# Altium integrated library Renesas Microcontroller H8S.IntLib: 670 symbols (part 23 of 70)
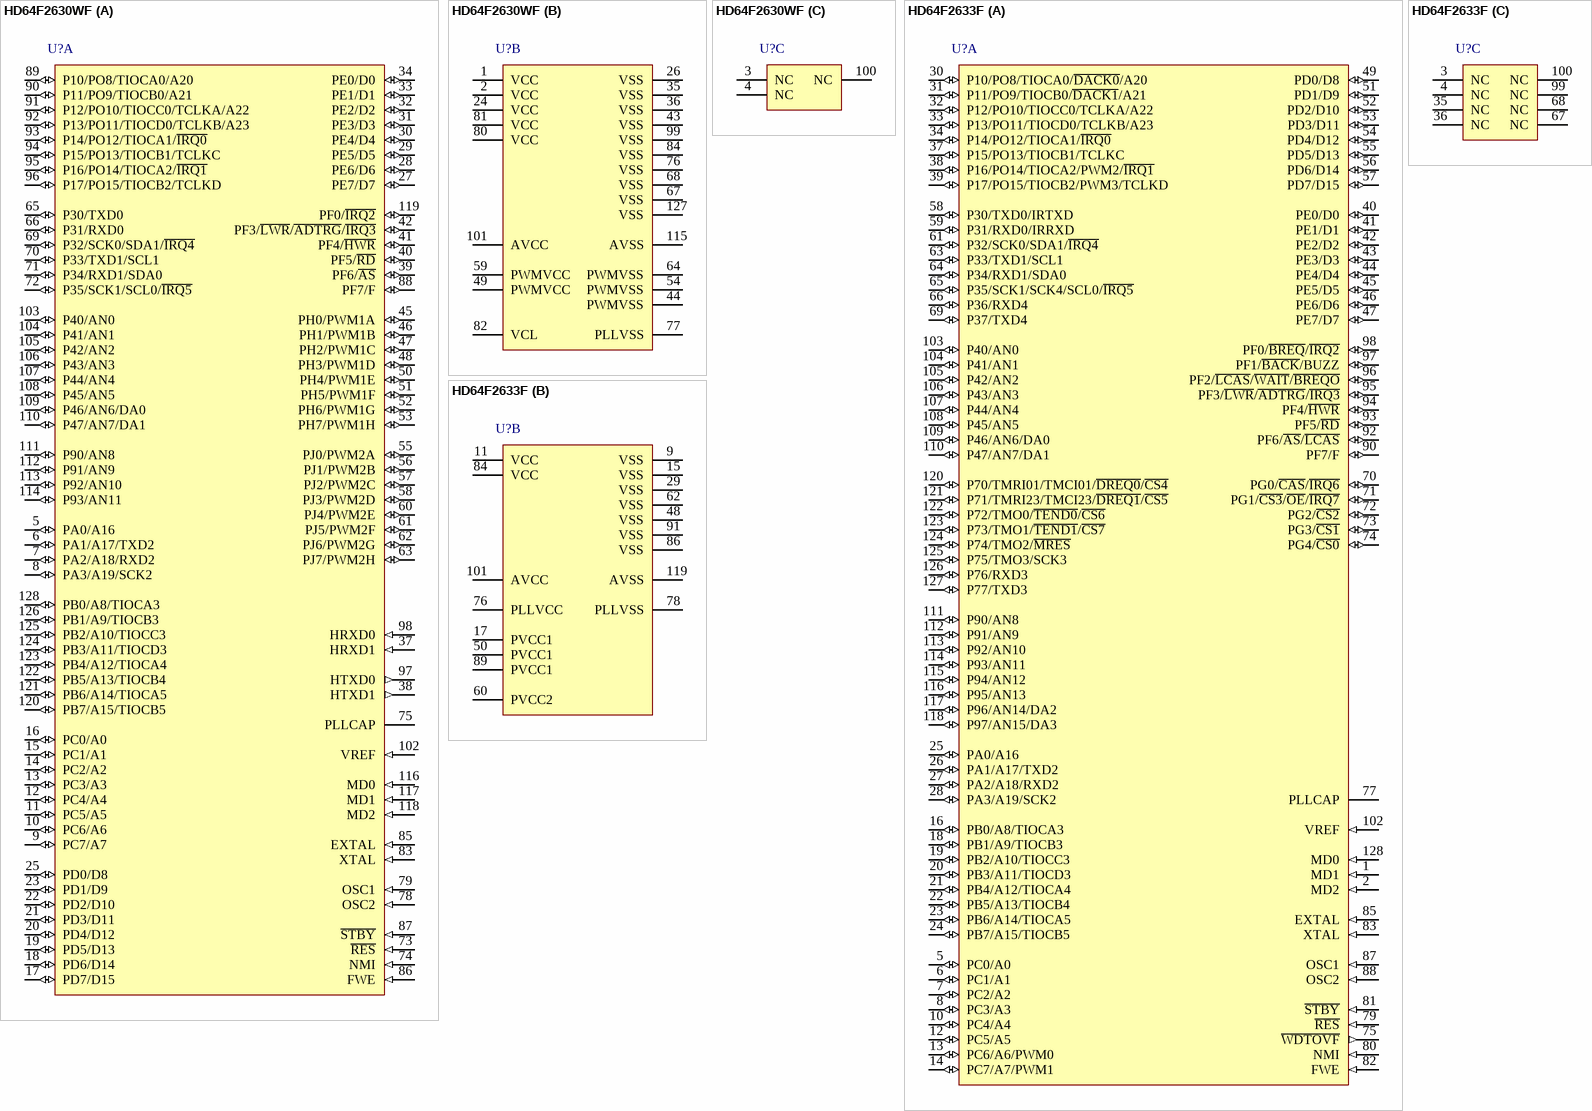
[diagram p256: symbols HD64F2630WF to HD64F2633F]

## HD64F2633F
designator U?
Flash memory H8S/2600 Series, 2633 Group MCU, 256K ROM, 16K RAM, FP-128B Pkg; Published: 28-Aug-2009; DatasheetVersion: Rev.5.00, Mar-2005; PackageVersion: Sep-2005; PackageReference: PRQP0128KB-A; Publisher: Altium Limited; PackageDescription: 128-Pin Plastic Quad Flat Pack, 20 x 14 x 2.7 mm Body, 0.5 mm Pitch; Code_JEITA: P-QFP128-14x20-0.50; Code_IPC: SQFP50P1600X2200-128; ComponentLink1Description: Manufacturer Link; ComponentLink1URL: http://sg.renesas.com/fmwk.jsp?cnt=h8s_family_landing.jsp&fp=/products/mpumcu/h8s_family/; ComponentLink2Description: Datasheet; ComponentLink2URL: http://documentation.renesas.com/eng/products/mpumcu/rej09b0234_h8s2633.pdf; ComponentLink3Description: Packaging Specification; ComponentLink3URL: http://sg.renesas.com/media/products/common_info/package/pdf/ic/code/prqp0128kb_a.pdf
footprint PRQP0128KB-A_N (Shrink QFP, 128-Leads, Body 20x14 mm, Pitch 0.5mm, IPC Medium Density)
footprint PRQP0128KB-A_L (Shrink QFP, 128-Leads, Body 20x14 mm, Pitch 0.5mm, IPC High Density)
footprint PRQP0128KB-A_M (Shrink QFP, 128-Leads, Body 20x14 mm, Pitch 0.5mm, IPC Low Density)
part A pins: 1 MD1 (in), 2 MD2 (in), 5 PC0/A0 (io), 6 PC1/A1 (io), 7 PC2/A2 (io), 8 PC3/A3 (io), 10 PC4/A4 (io), 12 PC5/A5 (io), 13 PC6/A6/PWM0 (io), 14 PC7/A7/PWM1 (io), 16 PB0/A8/TIOCA3 (io), 18 PB1/A9/TIOCB3 (io), 19 PB2/A10/TIOCC3 (io), 20 PB3/A11/TIOCD3 (io), 21 PB4/A12/TIOCA4 (io), 22 PB5/A13/TIOCB4 (io), 23 PB6/A14/TIOCA5 (io), 24 PB7/A15/TIOCB5 (io), 25 PA0/A16 (io), 26 PA1/A17/TXD2 (io), 27 PA2/A18/RXD2 (io), 28 PA3/A19/SCK2 (io), 30 P10/PO8/TIOCA0/~{DACK0}/A20 (io), 31 P11/PO9/TIOCB0/~{DACK1}/A21 (io), 32 P12/PO10/TIOCC0/TCLKA/A22 (io), 33 P13/PO11/TIOCD0/TCLKB/A23 (io), 34 P14/PO12/TIOCA1/~{IRQ0} (io), 37 P15/PO13/TIOCB1/TCLKC (io), 38 P16/PO14/TIOCA2/PWM2/~{IRQ1} (io), 39 P17/PO15/TIOCB2/PWM3/TCLKD (io), 40 PE0/D0 (io), 41 PE1/D1 (io), 42 PE2/D2 (io), 43 PE3/D3 (io), 44 PE4/D4 (io), 45 PE5/D5 (io), 46 PE6/D6 (io), 47 PE7/D7 (io), 49 PD0/D8 (io), 51 PD1/D9 (io), 52 PD2/D10 (io), 53 PD3/D11 (io), 54 PD4/D12 (io), 55 PD5/D13 (io), 56 PD6/D14 (io), 57 PD7/D15 (io), 58 P30/TXD0/IRTXD (io), 59 P31/RXD0/IRRXD (io), 61 P32/SCK0/SDA1/~{IRQ4} (io), 63 P33/TXD1/SCL1 (io), 64 P34/RXD1/SDA0 (io), 65 P35/SCK1/SCK4/SCL0/~{IRQ5} (io), 66 P36/RXD4 (io), 69 P37/TXD4 (io), 70 PG0/~{CAS}/~{IRQ6} (io), 71 PG1/~{CS3}/~{OE}/~{IRQ7} (io), 72 PG2/~{CS2} (io), 73 PG3/~{CS1} (io), 74 PG4/~{CS0} (io), 75 ~{WDTOVF} (out), 77 PLLCAP, 79 ~{RES} (in), 80 NMI (in), 81 ~{STBY} (in), 82 FWE (in), 83 XTAL (in), 85 EXTAL (in), 87 OSC1 (in), 88 OSC2 (in), 90 PF7/F (io), 92 PF6/~{AS}/~{LCAS} (io), 93 PF5/~{RD} (io), 94 PF4/~{HWR} (io), 95 PF3/~{LWR}/~{ADTRG}/~{IRQ3} (io), 96 PF2/~{LCAS}/~{WAIT}/~{BREQO} (io), 97 PF1/~{BACK}/BUZZ (io), 98 PF0/~{BREQ}/~{IRQ2} (io), 102 VREF (in), 103 P40/AN0 (io), 104 P41/AN1 (io), 105 P42/AN2 (io), 106 P43/AN3 (io), 107 P44/AN4 (io), 108 P45/AN5 (io), 109 P46/AN6/DA0 (io), 110 P47/AN7/DA1 (io), 111 P90/AN8 (io), 112 P91/AN9 (io), 113 P92/AN10 (io), 114 P93/AN11 (io), 115 P94/AN12 (io), 116 P95/AN13 (io), 117 P96/AN14/DA2 (io), 118 P97/AN15/DA3 (io), 120 P70/TMRI01/TMCI01/~{DREQ0}/~{CS4} (io), 121 P71/TMRI23/TMCI23/~{DREQ1}/~{CS5} (io), 122 P72/TMO0/~{TEND0}/~{CS6} (io), 123 P73/TMO1/~{TEND1}/~{CS7} (io), 124 P74/TMO2/~{MRES} (io), 125 P75/TMO3/SCK3 (io), 126 P76/RXD3 (io), 127 P77/TXD3 (io), 128 MD0 (in)
part B pins: 9 VSS (power), 11 VCC (power), 15 VSS (power), 17 PVCC1 (power), 29 VSS (power), 48 VSS (power), 50 PVCC1 (power), 60 PVCC2 (power), 62 VSS (power), 76 PLLVCC (power), 78 PLLVSS (power), 84 VCC (power), 86 VSS (power), 89 PVCC1 (power), 91 VSS (power), 101 AVCC (power), 119 AVSS (power)
part C pins: 3 NC, 4 NC, 35 NC, 36 NC, 67 NC, 68 NC, 99 NC, 100 NC

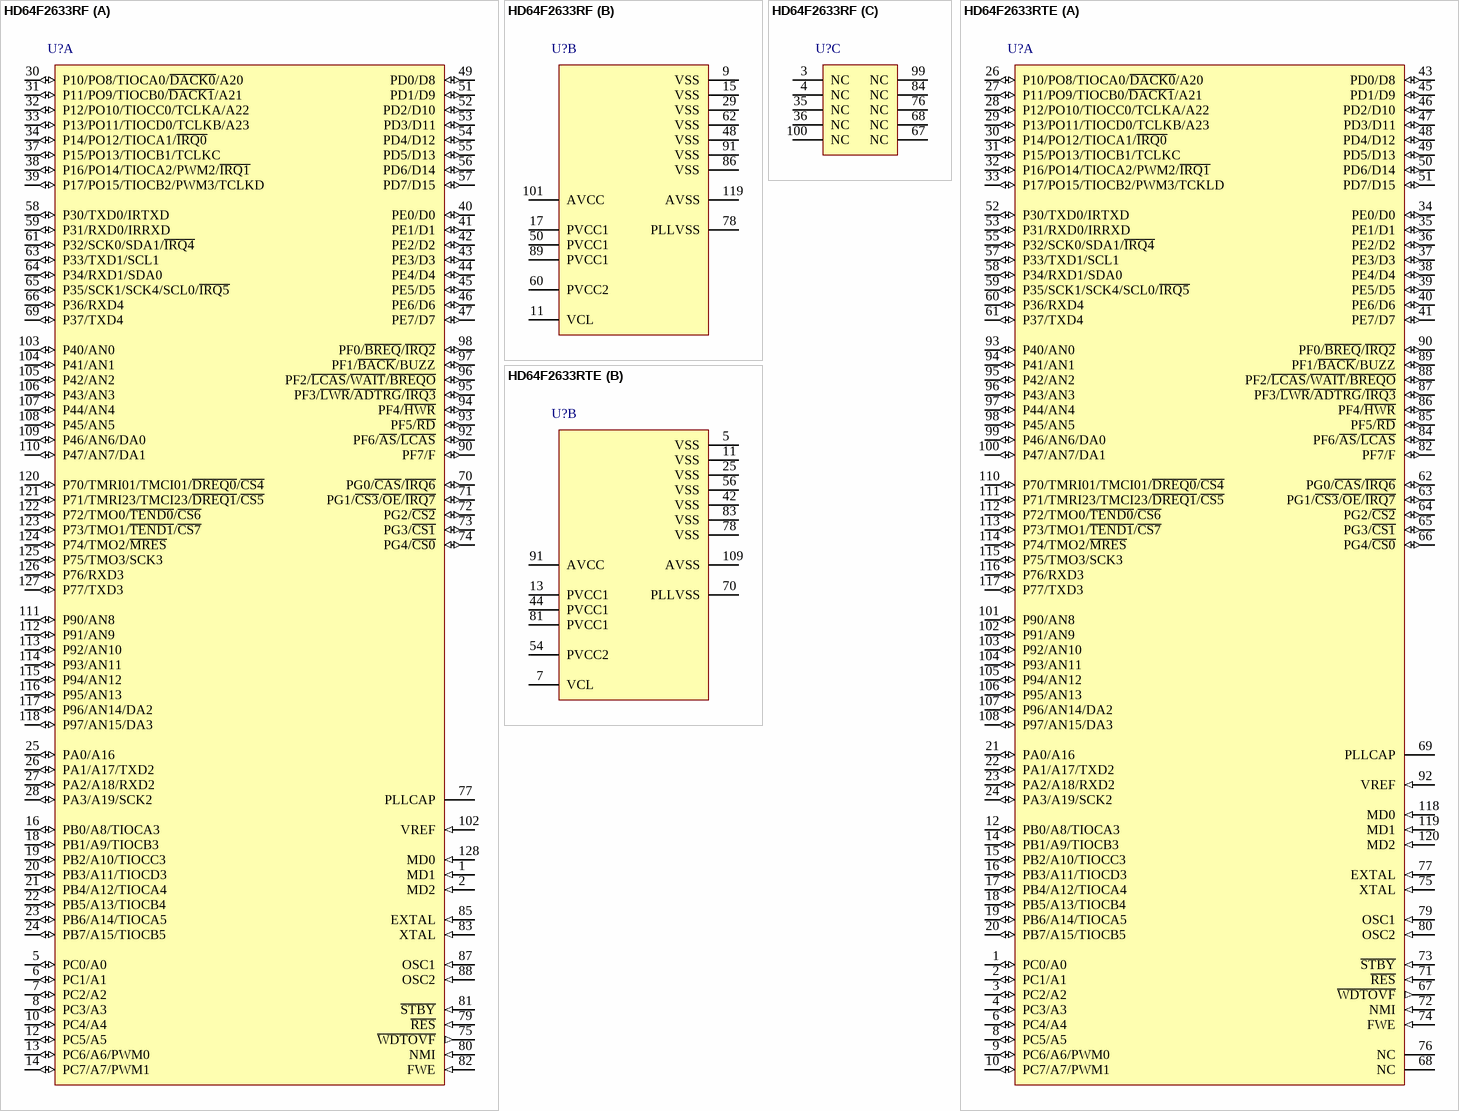
[diagram p79: symbols HD64F2633RF to HD64F2633RTE]

## HD64F2633RF
designator U?
Flash memory H8S/2600 Series, 2633 Group MCU, 256K ROM, 16K RAM, FP-128B Pkg; Published: 28-Aug-2009; DatasheetVersion: Rev.5.00, Mar-2005; PackageVersion: Sep-2005; PackageReference: PRQP0128KB-A; Publisher: Altium Limited; PackageDescription: 128-Pin Plastic Quad Flat Pack, 20 x 14 x 2.7 mm Body, 0.5 mm Pitch; Code_JEITA: P-QFP128-14x20-0.50; Code_IPC: SQFP50P1600X2200-128; ComponentLink1Description: Manufacturer Link; ComponentLink1URL: http://sg.renesas.com/fmwk.jsp?cnt=h8s_family_landing.jsp&fp=/products/mpumcu/h8s_family/; ComponentLink2Description: Datasheet; ComponentLink2URL: http://documentation.renesas.com/eng/products/mpumcu/rej09b0234_h8s2633.pdf; ComponentLink3Description: Packaging Specification; ComponentLink3URL: http://sg.renesas.com/media/products/common_info/package/pdf/ic/code/prqp0128kb_a.pdf
footprint PRQP0128KB-A_N (Shrink QFP, 128-Leads, Body 20x14 mm, Pitch 0.5mm, IPC Medium Density)
footprint PRQP0128KB-A_L (Shrink QFP, 128-Leads, Body 20x14 mm, Pitch 0.5mm, IPC High Density)
footprint PRQP0128KB-A_M (Shrink QFP, 128-Leads, Body 20x14 mm, Pitch 0.5mm, IPC Low Density)
part A pins: 1 MD1 (in), 2 MD2 (in), 5 PC0/A0 (io), 6 PC1/A1 (io), 7 PC2/A2 (io), 8 PC3/A3 (io), 10 PC4/A4 (io), 12 PC5/A5 (io), 13 PC6/A6/PWM0 (io), 14 PC7/A7/PWM1 (io), 16 PB0/A8/TIOCA3 (io), 18 PB1/A9/TIOCB3 (io), 19 PB2/A10/TIOCC3 (io), 20 PB3/A11/TIOCD3 (io), 21 PB4/A12/TIOCA4 (io), 22 PB5/A13/TIOCB4 (io), 23 PB6/A14/TIOCA5 (io), 24 PB7/A15/TIOCB5 (io), 25 PA0/A16 (io), 26 PA1/A17/TXD2 (io), 27 PA2/A18/RXD2 (io), 28 PA3/A19/SCK2 (io), 30 P10/PO8/TIOCA0/~{DACK0}/A20 (io), 31 P11/PO9/TIOCB0/~{DACK1}/A21 (io), 32 P12/PO10/TIOCC0/TCLKA/A22 (io), 33 P13/PO11/TIOCD0/TCLKB/A23 (io), 34 P14/PO12/TIOCA1/~{IRQ0} (io), 37 P15/PO13/TIOCB1/TCLKC (io), 38 P16/PO14/TIOCA2/PWM2/~{IRQ1} (io), 39 P17/PO15/TIOCB2/PWM3/TCLKD (io), 40 PE0/D0 (io), 41 PE1/D1 (io), 42 PE2/D2 (io), 43 PE3/D3 (io), 44 PE4/D4 (io), 45 PE5/D5 (io), 46 PE6/D6 (io), 47 PE7/D7 (io), 49 PD0/D8 (io), 51 PD1/D9 (io), 52 PD2/D10 (io), 53 PD3/D11 (io), 54 PD4/D12 (io), 55 PD5/D13 (io), 56 PD6/D14 (io), 57 PD7/D15 (io), 58 P30/TXD0/IRTXD (io), 59 P31/RXD0/IRRXD (io), 61 P32/SCK0/SDA1/~{IRQ4} (io), 63 P33/TXD1/SCL1 (io), 64 P34/RXD1/SDA0 (io), 65 P35/SCK1/SCK4/SCL0/~{IRQ5} (io), 66 P36/RXD4 (io), 69 P37/TXD4 (io), 70 PG0/~{CAS}/~{IRQ6} (io), 71 PG1/~{CS3}/~{OE}/~{IRQ7} (io), 72 PG2/~{CS2} (io), 73 PG3/~{CS1} (io), 74 PG4/~{CS0} (io), 75 ~{WDTOVF} (out), 77 PLLCAP, 79 ~{RES} (in), 80 NMI (in), 81 ~{STBY} (in), 82 FWE (in), 83 XTAL (in), 85 EXTAL (in), 87 OSC1 (in), 88 OSC2 (in), 90 PF7/F (io), 92 PF6/~{AS}/~{LCAS} (io), 93 PF5/~{RD} (io), 94 PF4/~{HWR} (io), 95 PF3/~{LWR}/~{ADTRG}/~{IRQ3} (io), 96 PF2/~{LCAS}/~{WAIT}/~{BREQO} (io), 97 PF1/~{BACK}/BUZZ (io), 98 PF0/~{BREQ}/~{IRQ2} (io), 102 VREF (in), 103 P40/AN0 (io), 104 P41/AN1 (io), 105 P42/AN2 (io), 106 P43/AN3 (io), 107 P44/AN4 (io), 108 P45/AN5 (io), 109 P46/AN6/DA0 (io), 110 P47/AN7/DA1 (io), 111 P90/AN8 (io), 112 P91/AN9 (io), 113 P92/AN10 (io), 114 P93/AN11 (io), 115 P94/AN12 (io), 116 P95/AN13 (io), 117 P96/AN14/DA2 (io), 118 P97/AN15/DA3 (io), 120 P70/TMRI01/TMCI01/~{DREQ0}/~{CS4} (io), 121 P71/TMRI23/TMCI23/~{DREQ1}/~{CS5} (io), 122 P72/TMO0/~{TEND0}/~{CS6} (io), 123 P73/TMO1/~{TEND1}/~{CS7} (io), 124 P74/TMO2/~{MRES} (io), 125 P75/TMO3/SCK3 (io), 126 P76/RXD3 (io), 127 P77/TXD3 (io), 128 MD0 (in)
part B pins: 9 VSS (power), 11 VCL, 15 VSS (power), 17 PVCC1 (power), 29 VSS (power), 48 VSS (power), 50 PVCC1 (power), 60 PVCC2 (power), 62 VSS (power), 78 PLLVSS (power), 86 VSS (power), 89 PVCC1 (power), 91 VSS (power), 101 AVCC (power), 119 AVSS (power)
part C pins: 3 NC, 4 NC, 35 NC, 36 NC, 67 NC, 68 NC, 76 NC, 84 NC, 99 NC, 100 NC

## HD64F2633RTE
designator U?
Flash memory H8S/2600 Series, 2633 Group MCU, 256K ROM, 16K RAM, TFP-120 Pkg; Published: 28-Aug-2009; DatasheetVersion: Rev.5.00, Mar-2005; PackageVersion: Sep-2005; PackageReference: PTQP0120LA-A; Publisher: Altium Limited; PackageDescription: 120-Pin Plastic Thin QFP, 14 x 14 x 1.0 mm Body, 0.4 mm Pitch; Code_JEITA: P-TQFP120-14x14-0.40; ComponentLink1Description: Manufacturer Link; ComponentLink1URL: http://sg.renesas.com/fmwk.jsp?cnt=h8s_family_landing.jsp&fp=/products/mpumcu/h8s_family/; ComponentLink2Description: Datasheet; ComponentLink2URL: http://documentation.renesas.com/eng/products/mpumcu/rej09b0234_h8s2633.pdf; ComponentLink3Description: Packaging Specification; ComponentLink3URL: http://sg.renesas.com/media/products/common_info/package/pdf/ic/code/ptqp0120la_a.pdf
footprint PTQP0120LA-A_N (Thin QFP, 120-Leads, Body 14x14mm, Pitch 0.4mm, IPC Medium Density)
footprint PTQP0120LA-A_L (Thin QFP, 120-Leads, Body 14x14mm, Pitch 0.4mm, IPC High Density)
footprint PTQP0120LA-A_M (Thin QFP, 120-Leads, Body 14x14mm, Pitch 0.4mm, IPC Low Density)
part A pins: 1 PC0/A0 (io), 2 PC1/A1 (io), 3 PC2/A2 (io), 4 PC3/A3 (io), 6 PC4/A4 (io), 8 PC5/A5 (io), 9 PC6/A6/PWM0 (io), 10 PC7/A7/PWM1 (io), 12 PB0/A8/TIOCA3 (io), 14 PB1/A9/TIOCB3 (io), 15 PB2/A10/TIOCC3 (io), 16 PB3/A11/TIOCD3 (io), 17 PB4/A12/TIOCA4 (io), 18 PB5/A13/TIOCB4 (io), 19 PB6/A14/TIOCA5 (io), 20 PB7/A15/TIOCB5 (io), 21 PA0/A16 (io), 22 PA1/A17/TXD2 (io), 23 PA2/A18/RXD2 (io), 24 PA3/A19/SCK2 (io), 26 P10/PO8/TIOCA0/~{DACK0}/A20 (io), 27 P11/PO9/TIOCB0/~{DACK1}/A21 (io), 28 P12/PO10/TIOCC0/TCLKA/A22 (io), 29 P13/PO11/TIOCD0/TCLKB/A23 (io), 30 P14/PO12/TIOCA1/~{IRQ0} (io), 31 P15/PO13/TIOCB1/TCLKC (io), 32 P16/PO14/TIOCA2/PWM2/~{IRQ1} (io), 33 P17/PO15/TIOCB2/PWM3/TCKLD (io), 34 PE0/D0 (io), 35 PE1/D1 (io), 36 PE2/D2 (io), 37 PE3/D3 (io), 38 PE4/D4 (io), 39 PE5/D5 (io), 40 PE6/D6 (io), 41 PE7/D7 (io), 43 PD0/D8 (io), 45 PD1/D9 (io), 46 PD2/D10 (io), 47 PD3/D11 (io), 48 PD4/D12 (io), 49 PD5/D13 (io), 50 PD6/D14 (io), 51 PD7/D15 (io), 52 P30/TXD0/IRTXD (io), 53 P31/RXD0/IRRXD (io), 55 P32/SCK0/SDA1/~{IRQ4} (io), 57 P33/TXD1/SCL1 (io), 58 P34/RXD1/SDA0 (io), 59 P35/SCK1/SCK4/SCL0/~{IRQ5} (io), 60 P36/RXD4 (io), 61 P37/TXD4 (io), 62 PG0/~{CAS}/~{IRQ6} (io), 63 PG1/~{CS3}/~{OE}/~{IRQ7} (io), 64 PG2/~{CS2} (io), 65 PG3/~{CS1} (io), 66 PG4/~{CS0} (io), 67 ~{WDTOVF} (out), 68 NC, 69 PLLCAP, 71 ~{RES} (in), 72 NMI (in), 73 ~{STBY} (in), 74 FWE (in), 75 XTAL (in), 76 NC, 77 EXTAL (in), 79 OSC1 (in), 80 OSC2 (in), 82 PF7/F (io), 84 PF6/~{AS}/~{LCAS} (io), 85 PF5/~{RD} (io), 86 PF4/~{HWR} (io), 87 PF3/~{LWR}/~{ADTRG}/~{IRQ3} (io), 88 PF2/~{LCAS}/~{WAIT}/~{BREQO} (io), 89 PF1/~{BACK}/BUZZ (io), 90 PF0/~{BREQ}/~{IRQ2} (io), 92 VREF (in), 93 P40/AN0 (io), 94 P41/AN1 (io), 95 P42/AN2 (io), 96 P43/AN3 (io), 97 P44/AN4 (io), 98 P45/AN5 (io), 99 P46/AN6/DA0 (io), 100 P47/AN7/DA1 (io), 101 P90/AN8 (io), 102 P91/AN9 (io), 103 P92/AN10 (io), 104 P93/AN11 (io), 105 P94/AN12 (io), 106 P95/AN13 (io), 107 P96/AN14/DA2 (io), 108 P97/AN15/DA3 (io), 110 P70/TMRI01/TMCI01/~{DREQ0}/~{CS4} (io), 111 P71/TMRI23/TMCI23/~{DREQ1}/~{CS5} (io), 112 P72/TMO0/~{TEND0}/~{CS6} (io), 113 P73/TMO1/~{TEND1}/~{CS7} (io), 114 P74/TMO2/~{MRES} (io), 115 P75/TMO3/SCK3 (io), 116 P76/RXD3 (io), 117 P77/TXD3 (io), 118 MD0 (in), 119 MD1 (in), 120 MD2 (in)
part B pins: 5 VSS (power), 7 VCL, 11 VSS (power), 13 PVCC1 (power), 25 VSS (power), 42 VSS (power), 44 PVCC1 (power), 54 PVCC2 (power), 56 VSS (power), 70 PLLVSS (power), 78 VSS (power), 81 PVCC1 (power), 83 VSS (power), 91 AVCC (power), 109 AVSS (power)

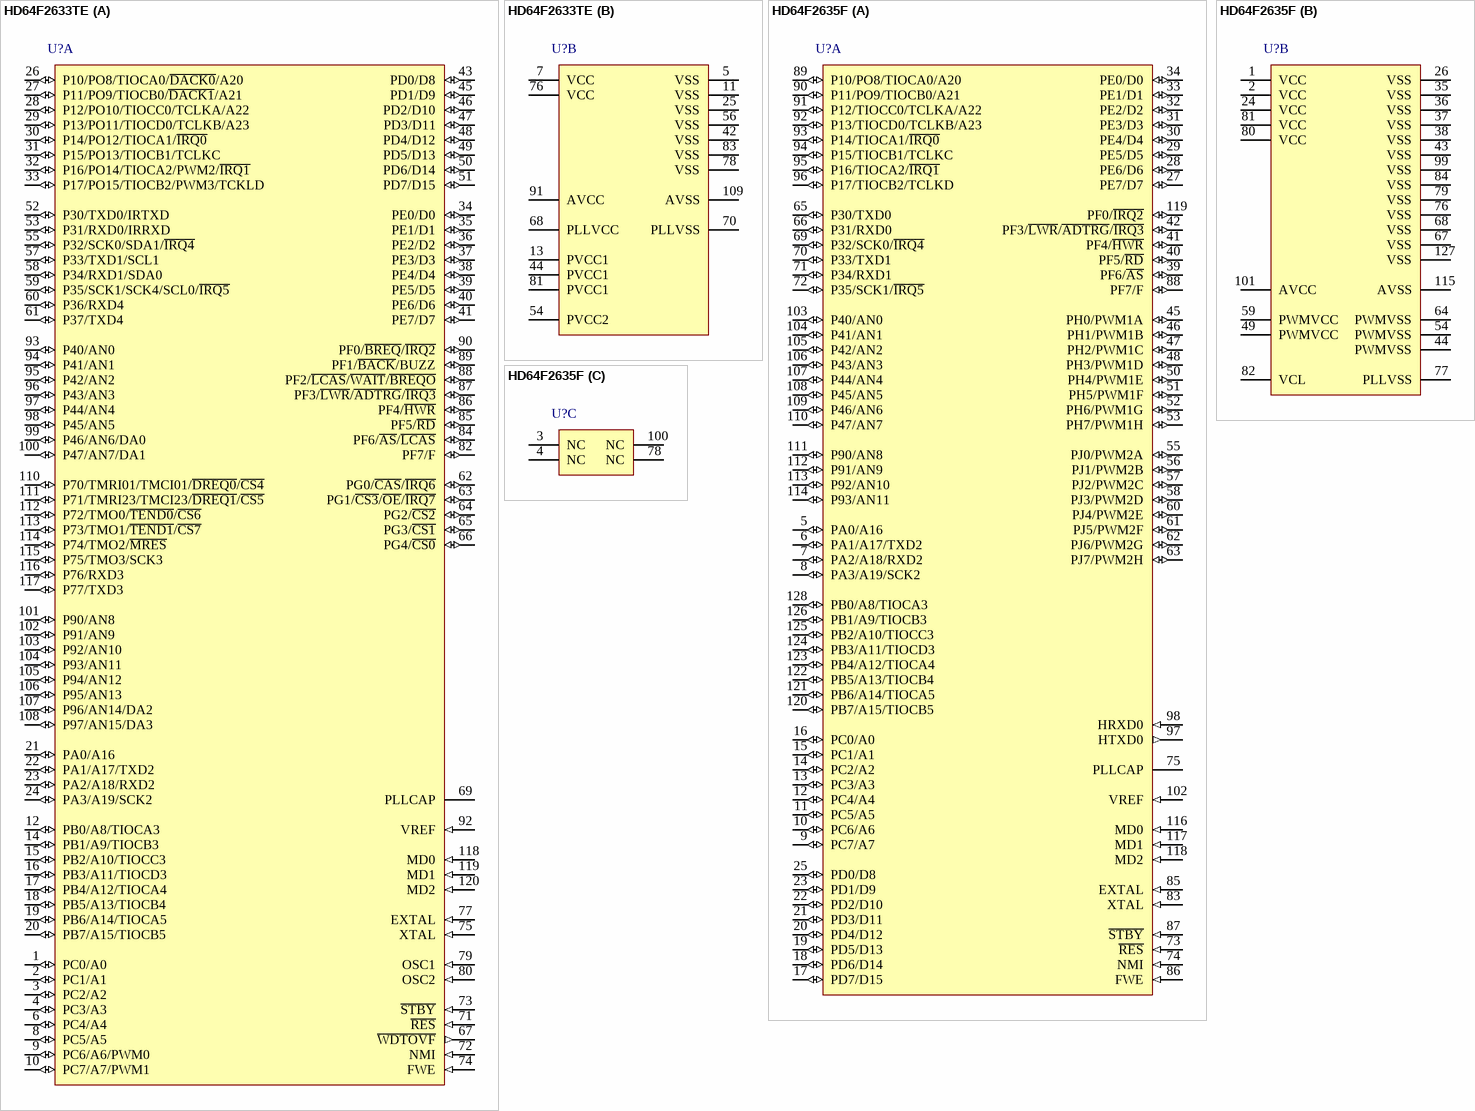
[diagram p80: symbols HD64F2633TE to HD64F2635F]

## HD64F2633TE
designator U?
Flash memory H8S/2600 Series, 2633 Group MCU, 256K ROM, 16K RAM, TFP-120 Pkg; Published: 28-Aug-2009; DatasheetVersion: Rev.5.00, Mar-2005; PackageVersion: Sep-2005; PackageReference: PTQP0120LA-A; Publisher: Altium Limited; PackageDescription: 120-Pin Plastic Thin QFP, 14 x 14 x 1.0 mm Body, 0.4 mm Pitch; Code_JEITA: P-TQFP120-14x14-0.40; ComponentLink1Description: Manufacturer Link; ComponentLink1URL: http://sg.renesas.com/fmwk.jsp?cnt=h8s_family_landing.jsp&fp=/products/mpumcu/h8s_family/; ComponentLink2Description: Datasheet; ComponentLink2URL: http://documentation.renesas.com/eng/products/mpumcu/rej09b0234_h8s2633.pdf; ComponentLink3Description: Packaging Specification; ComponentLink3URL: http://sg.renesas.com/media/products/common_info/package/pdf/ic/code/ptqp0120la_a.pdf
footprint PTQP0120LA-A_N (Thin QFP, 120-Leads, Body 14x14mm, Pitch 0.4mm, IPC Medium Density)
footprint PTQP0120LA-A_L (Thin QFP, 120-Leads, Body 14x14mm, Pitch 0.4mm, IPC High Density)
footprint PTQP0120LA-A_M (Thin QFP, 120-Leads, Body 14x14mm, Pitch 0.4mm, IPC Low Density)
part A pins: 1 PC0/A0 (io), 2 PC1/A1 (io), 3 PC2/A2 (io), 4 PC3/A3 (io), 6 PC4/A4 (io), 8 PC5/A5 (io), 9 PC6/A6/PWM0 (io), 10 PC7/A7/PWM1 (io), 12 PB0/A8/TIOCA3 (io), 14 PB1/A9/TIOCB3 (io), 15 PB2/A10/TIOCC3 (io), 16 PB3/A11/TIOCD3 (io), 17 PB4/A12/TIOCA4 (io), 18 PB5/A13/TIOCB4 (io), 19 PB6/A14/TIOCA5 (io), 20 PB7/A15/TIOCB5 (io), 21 PA0/A16 (io), 22 PA1/A17/TXD2 (io), 23 PA2/A18/RXD2 (io), 24 PA3/A19/SCK2 (io), 26 P10/PO8/TIOCA0/~{DACK0}/A20 (io), 27 P11/PO9/TIOCB0/~{DACK1}/A21 (io), 28 P12/PO10/TIOCC0/TCLKA/A22 (io), 29 P13/PO11/TIOCD0/TCLKB/A23 (io), 30 P14/PO12/TIOCA1/~{IRQ0} (io), 31 P15/PO13/TIOCB1/TCLKC (io), 32 P16/PO14/TIOCA2/PWM2/~{IRQ1} (io), 33 P17/PO15/TIOCB2/PWM3/TCKLD (io), 34 PE0/D0 (io), 35 PE1/D1 (io), 36 PE2/D2 (io), 37 PE3/D3 (io), 38 PE4/D4 (io), 39 PE5/D5 (io), 40 PE6/D6 (io), 41 PE7/D7 (io), 43 PD0/D8 (io), 45 PD1/D9 (io), 46 PD2/D10 (io), 47 PD3/D11 (io), 48 PD4/D12 (io), 49 PD5/D13 (io), 50 PD6/D14 (io), 51 PD7/D15 (io), 52 P30/TXD0/IRTXD (io), 53 P31/RXD0/IRRXD (io), 55 P32/SCK0/SDA1/~{IRQ4} (io), 57 P33/TXD1/SCL1 (io), 58 P34/RXD1/SDA0 (io), 59 P35/SCK1/SCK4/SCL0/~{IRQ5} (io), 60 P36/RXD4 (io), 61 P37/TXD4 (io), 62 PG0/~{CAS}/~{IRQ6} (io), 63 PG1/~{CS3}/~{OE}/~{IRQ7} (io), 64 PG2/~{CS2} (io), 65 PG3/~{CS1} (io), 66 PG4/~{CS0} (io), 67 ~{WDTOVF} (out), 69 PLLCAP, 71 ~{RES} (in), 72 NMI (in), 73 ~{STBY} (in), 74 FWE (in), 75 XTAL (in), 77 EXTAL (in), 79 OSC1 (in), 80 OSC2 (in), 82 PF7/F (io), 84 PF6/~{AS}/~{LCAS} (io), 85 PF5/~{RD} (io), 86 PF4/~{HWR} (io), 87 PF3/~{LWR}/~{ADTRG}/~{IRQ3} (io), 88 PF2/~{LCAS}/~{WAIT}/~{BREQO} (io), 89 PF1/~{BACK}/BUZZ (io), 90 PF0/~{BREQ}/~{IRQ2} (io), 92 VREF (in), 93 P40/AN0 (io), 94 P41/AN1 (io), 95 P42/AN2 (io), 96 P43/AN3 (io), 97 P44/AN4 (io), 98 P45/AN5 (io), 99 P46/AN6/DA0 (io), 100 P47/AN7/DA1 (io), 101 P90/AN8 (io), 102 P91/AN9 (io), 103 P92/AN10 (io), 104 P93/AN11 (io), 105 P94/AN12 (io), 106 P95/AN13 (io), 107 P96/AN14/DA2 (io), 108 P97/AN15/DA3 (io), 110 P70/TMRI01/TMCI01/~{DREQ0}/~{CS4} (io), 111 P71/TMRI23/TMCI23/~{DREQ1}/~{CS5} (io), 112 P72/TMO0/~{TEND0}/~{CS6} (io), 113 P73/TMO1/~{TEND1}/~{CS7} (io), 114 P74/TMO2/~{MRES} (io), 115 P75/TMO3/SCK3 (io), 116 P76/RXD3 (io), 117 P77/TXD3 (io), 118 MD0 (in), 119 MD1 (in), 120 MD2 (in)
part B pins: 5 VSS (power), 7 VCC (power), 11 VSS (power), 13 PVCC1 (power), 25 VSS (power), 42 VSS (power), 44 PVCC1 (power), 54 PVCC2 (power), 56 VSS (power), 68 PLLVCC (power), 70 PLLVSS (power), 76 VCC (power), 78 VSS (power), 81 PVCC1 (power), 83 VSS (power), 91 AVCC (power), 109 AVSS (power)

## HD64F2635F
designator U?
Flash memory H8S/2600 Series, 2635 Group MCU, 192K ROM, 6K RAM, FP-128B Pkg; Published: 28-Aug-2009; DatasheetVersion: Rev.7.00, Feb-2009; PackageVersion: Sep-2005; PackageReference: PRQP0128KB-A; Publisher: Altium Limited; PackageDescription: 128-Pin Plastic Quad Flat Pack, 20 x 14 x 2.7 mm Body, 0.5 mm Pitch; Code_JEITA: P-QFP128-14x20-0.50; Code_IPC: SQFP50P1600X2200-128; ComponentLink1Description: Manufacturer Link; ComponentLink1URL: http://sg.renesas.com/fmwk.jsp?cnt=h8s_family_landing.jsp&fp=/products/mpumcu/h8s_family/; ComponentLink2Description: Datasheet; ComponentLink2URL: http://documentation.renesas.com/eng/products/mpumcu/rej09b0103_h8s2639.pdf; ComponentLink3Description: Packaging Specification; ComponentLink3URL: http://sg.renesas.com/media/products/common_info/package/pdf/ic/code/prqp0128kb_a.pdf
footprint PRQP0128KB-A_N (Shrink QFP, 128-Leads, Body 20x14 mm, Pitch 0.5mm, IPC Medium Density)
footprint PRQP0128KB-A_L (Shrink QFP, 128-Leads, Body 20x14 mm, Pitch 0.5mm, IPC High Density)
footprint PRQP0128KB-A_M (Shrink QFP, 128-Leads, Body 20x14 mm, Pitch 0.5mm, IPC Low Density)
part A pins: 5 PA0/A16 (io), 6 PA1/A17/TXD2 (io), 7 PA2/A18/RXD2 (io), 8 PA3/A19/SCK2 (io), 9 PC7/A7 (io), 10 PC6/A6 (io), 11 PC5/A5 (io), 12 PC4/A4 (io), 13 PC3/A3 (io), 14 PC2/A2 (io), 15 PC1/A1 (io), 16 PC0/A0 (io), 17 PD7/D15 (io), 18 PD6/D14 (io), 19 PD5/D13 (io), 20 PD4/D12 (io), 21 PD3/D11 (io), 22 PD2/D10 (io), 23 PD1/D9 (io), 25 PD0/D8 (io), 27 PE7/D7 (io), 28 PE6/D6 (io), 29 PE5/D5 (io), 30 PE4/D4 (io), 31 PE3/D3 (io), 32 PE2/D2 (io), 33 PE1/D1 (io), 34 PE0/D0 (io), 39 PF6/~{AS} (io), 40 PF5/~{RD} (io), 41 PF4/~{HWR} (io), 42 PF3/~{LWR}/~{ADTRG}/~{IRQ3} (io), 45 PH0/PWM1A (io), 46 PH1/PWM1B (io), 47 PH2/PWM1C (io), 48 PH3/PWM1D (io), 50 PH4/PWM1E (io), 51 PH5/PWM1F (io), 52 PH6/PWM1G (io), 53 PH7/PWM1H (io), 55 PJ0/PWM2A (io), 56 PJ1/PWM2B (io), 57 PJ2/PWM2C (io), 58 PJ3/PWM2D (io), 60 PJ4/PWM2E (io), 61 PJ5/PWM2F (io), 62 PJ6/PWM2G (io), 63 PJ7/PWM2H (io), 65 P30/TXD0 (io), 66 P31/RXD0 (io), 69 P32/SCK0/~{IRQ4} (io), 70 P33/TXD1 (io), 71 P34/RXD1 (io), 72 P35/SCK1/~{IRQ5} (io), 73 ~{RES} (in), 74 NMI (in), 75 PLLCAP, 83 XTAL (in), 85 EXTAL (in), 86 FWE (in), 87 ~{STBY} (in), 88 PF7/F (io), 89 P10/PO8/TIOCA0/A20 (io), 90 P11/PO9/TIOCB0/A21 (io), 91 P12/TIOCC0/TCLKA/A22 (io), 92 P13/TIOCD0/TCLKB/A23 (io), 93 P14/TIOCA1/~{IRQ0} (io), 94 P15/TIOCB1/TCLKC (io), 95 P16/TIOCA2/~{IRQ1} (io), 96 P17/TIOCB2/TCLKD (io), 97 HTXD0 (out), 98 HRXD0 (in), 102 VREF (in), 103 P40/AN0 (io), 104 P41/AN1 (io), 105 P42/AN2 (io), 106 P43/AN3 (io), 107 P44/AN4 (io), 108 P45/AN5 (io), 109 P46/AN6 (io), 110 P47/AN7 (io), 111 P90/AN8 (io), 112 P91/AN9 (io), 113 P92/AN10 (io), 114 P93/AN11 (io), 116 MD0 (in), 117 MD1 (in), 118 MD2 (in), 119 PF0/~{IRQ2} (io), 120 PB7/A15/TIOCB5 (io), 121 PB6/A14/TIOCA5 (io), 122 PB5/A13/TIOCB4 (io), 123 PB4/A12/TIOCA4 (io), 124 PB3/A11/TIOCD3 (io), 125 PB2/A10/TIOCC3 (io), 126 PB1/A9/TIOCB3 (io), 128 PB0/A8/TIOCA3 (io)
part B pins: 1 VCC (power), 2 VCC (power), 24 VCC (power), 26 VSS (power), 35 VSS (power), 36 VSS (power), 37 VSS (power), 38 VSS (power), 43 VSS (power), 44 PWMVSS (power), 49 PWMVCC (power), 54 PWMVSS (power), 59 PWMVCC (power), 64 PWMVSS (power), 67 VSS (power), 68 VSS (power), 76 VSS (power), 77 PLLVSS (power), 79 VSS (power), 80 VCC (power), 81 VCC (power), 82 VCL, 84 VSS (power), 99 VSS (power), 101 AVCC (power), 115 AVSS (power), 127 VSS (power)
part C pins: 3 NC, 4 NC, 78 NC, 100 NC

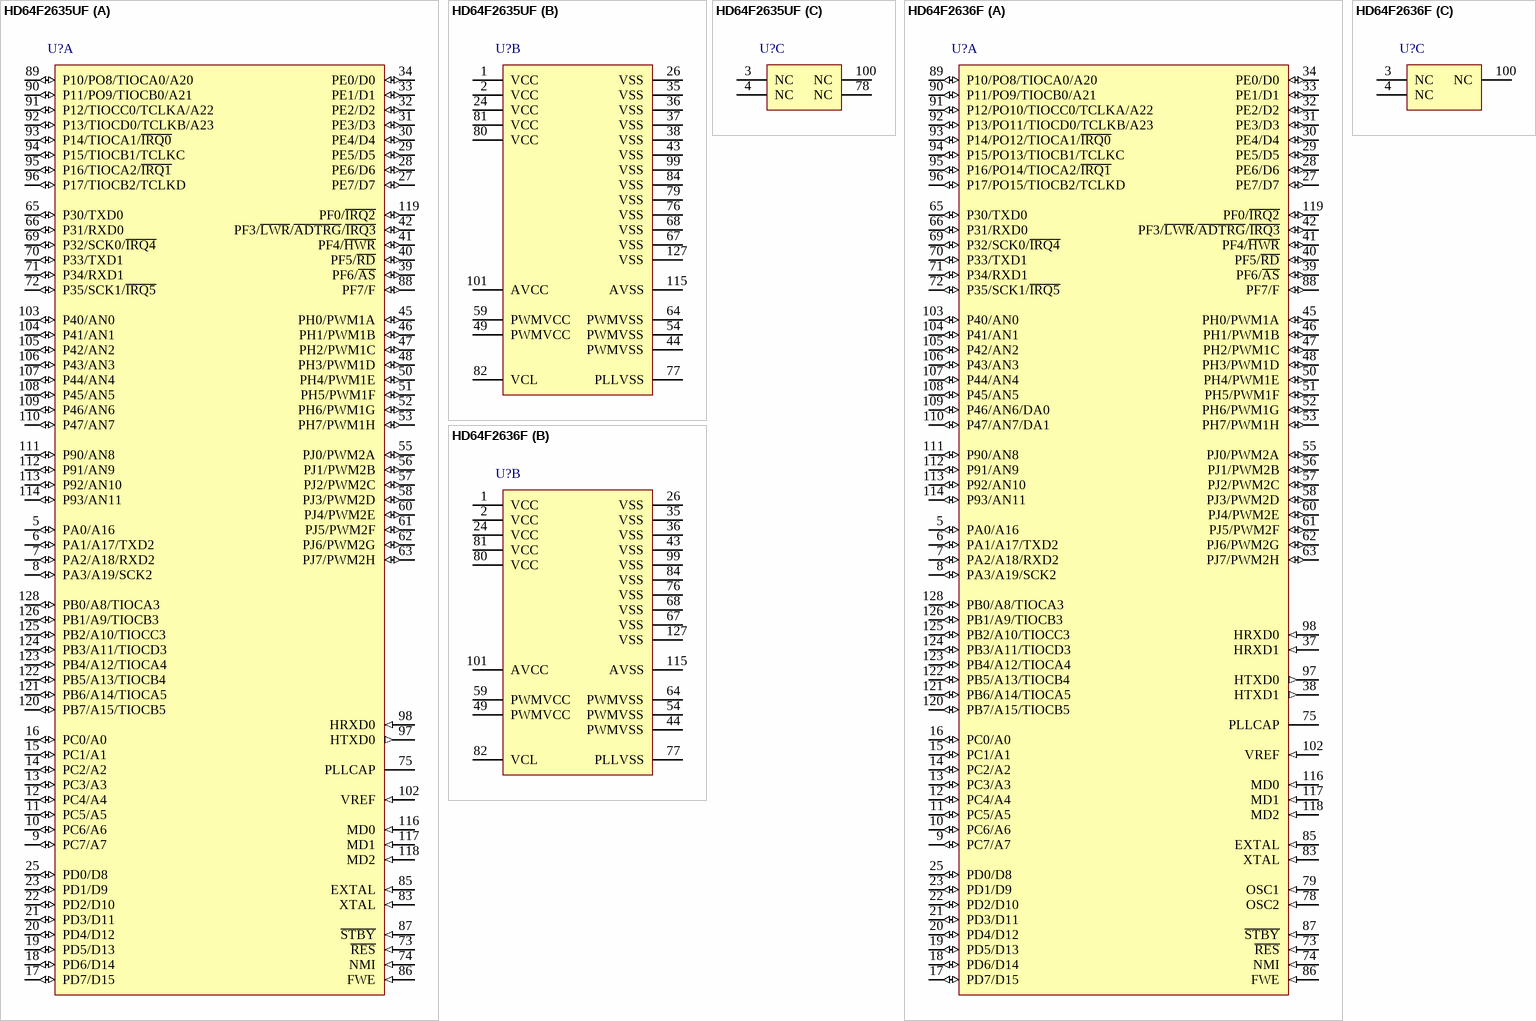
[diagram p81: symbols HD64F2635UF to HD64F2636F]

## HD64F2635UF
designator U?
Flash memory H8S/2600 Series, 2635 Group MCU, 192K ROM, 6K RAM, FP-128B Pkg; Published: 28-Aug-2009; DatasheetVersion: Rev.7.00, Feb-2009; PackageVersion: Sep-2005; PackageReference: PRQP0128KB-A; Publisher: Altium Limited; PackageDescription: 128-Pin Plastic Quad Flat Pack, 20 x 14 x 2.7 mm Body, 0.5 mm Pitch; Code_JEITA: P-QFP128-14x20-0.50; Code_IPC: SQFP50P1600X2200-128; ComponentLink1Description: Manufacturer Link; ComponentLink1URL: http://sg.renesas.com/fmwk.jsp?cnt=h8s_family_landing.jsp&fp=/products/mpumcu/h8s_family/; ComponentLink2Description: Datasheet; ComponentLink2URL: http://documentation.renesas.com/eng/products/mpumcu/rej09b0103_h8s2639.pdf; ComponentLink3Description: Packaging Specification; ComponentLink3URL: http://sg.renesas.com/media/products/common_info/package/pdf/ic/code/prqp0128kb_a.pdf
footprint PRQP0128KB-A_N (Shrink QFP, 128-Leads, Body 20x14 mm, Pitch 0.5mm, IPC Medium Density)
footprint PRQP0128KB-A_L (Shrink QFP, 128-Leads, Body 20x14 mm, Pitch 0.5mm, IPC High Density)
footprint PRQP0128KB-A_M (Shrink QFP, 128-Leads, Body 20x14 mm, Pitch 0.5mm, IPC Low Density)
part A pins: 5 PA0/A16 (io), 6 PA1/A17/TXD2 (io), 7 PA2/A18/RXD2 (io), 8 PA3/A19/SCK2 (io), 9 PC7/A7 (io), 10 PC6/A6 (io), 11 PC5/A5 (io), 12 PC4/A4 (io), 13 PC3/A3 (io), 14 PC2/A2 (io), 15 PC1/A1 (io), 16 PC0/A0 (io), 17 PD7/D15 (io), 18 PD6/D14 (io), 19 PD5/D13 (io), 20 PD4/D12 (io), 21 PD3/D11 (io), 22 PD2/D10 (io), 23 PD1/D9 (io), 25 PD0/D8 (io), 27 PE7/D7 (io), 28 PE6/D6 (io), 29 PE5/D5 (io), 30 PE4/D4 (io), 31 PE3/D3 (io), 32 PE2/D2 (io), 33 PE1/D1 (io), 34 PE0/D0 (io), 39 PF6/~{AS} (io), 40 PF5/~{RD} (io), 41 PF4/~{HWR} (io), 42 PF3/~{LWR}/~{ADTRG}/~{IRQ3} (io), 45 PH0/PWM1A (io), 46 PH1/PWM1B (io), 47 PH2/PWM1C (io), 48 PH3/PWM1D (io), 50 PH4/PWM1E (io), 51 PH5/PWM1F (io), 52 PH6/PWM1G (io), 53 PH7/PWM1H (io), 55 PJ0/PWM2A (io), 56 PJ1/PWM2B (io), 57 PJ2/PWM2C (io), 58 PJ3/PWM2D (io), 60 PJ4/PWM2E (io), 61 PJ5/PWM2F (io), 62 PJ6/PWM2G (io), 63 PJ7/PWM2H (io), 65 P30/TXD0 (io), 66 P31/RXD0 (io), 69 P32/SCK0/~{IRQ4} (io), 70 P33/TXD1 (io), 71 P34/RXD1 (io), 72 P35/SCK1/~{IRQ5} (io), 73 ~{RES} (in), 74 NMI (in), 75 PLLCAP, 83 XTAL (in), 85 EXTAL (in), 86 FWE (in), 87 ~{STBY} (in), 88 PF7/F (io), 89 P10/PO8/TIOCA0/A20 (io), 90 P11/PO9/TIOCB0/A21 (io), 91 P12/TIOCC0/TCLKA/A22 (io), 92 P13/TIOCD0/TCLKB/A23 (io), 93 P14/TIOCA1/~{IRQ0} (io), 94 P15/TIOCB1/TCLKC (io), 95 P16/TIOCA2/~{IRQ1} (io), 96 P17/TIOCB2/TCLKD (io), 97 HTXD0 (out), 98 HRXD0 (in), 102 VREF (in), 103 P40/AN0 (io), 104 P41/AN1 (io), 105 P42/AN2 (io), 106 P43/AN3 (io), 107 P44/AN4 (io), 108 P45/AN5 (io), 109 P46/AN6 (io), 110 P47/AN7 (io), 111 P90/AN8 (io), 112 P91/AN9 (io), 113 P92/AN10 (io), 114 P93/AN11 (io), 116 MD0 (in), 117 MD1 (in), 118 MD2 (in), 119 PF0/~{IRQ2} (io), 120 PB7/A15/TIOCB5 (io), 121 PB6/A14/TIOCA5 (io), 122 PB5/A13/TIOCB4 (io), 123 PB4/A12/TIOCA4 (io), 124 PB3/A11/TIOCD3 (io), 125 PB2/A10/TIOCC3 (io), 126 PB1/A9/TIOCB3 (io), 128 PB0/A8/TIOCA3 (io)
part B pins: 1 VCC (power), 2 VCC (power), 24 VCC (power), 26 VSS (power), 35 VSS (power), 36 VSS (power), 37 VSS (power), 38 VSS (power), 43 VSS (power), 44 PWMVSS (power), 49 PWMVCC (power), 54 PWMVSS (power), 59 PWMVCC (power), 64 PWMVSS (power), 67 VSS (power), 68 VSS (power), 76 VSS (power), 77 PLLVSS (power), 79 VSS (power), 80 VCC (power), 81 VCC (power), 82 VCL, 84 VSS (power), 99 VSS (power), 101 AVCC (power), 115 AVSS (power), 127 VSS (power)
part C pins: 3 NC, 4 NC, 78 NC, 100 NC

## HD64F2636F
designator U?
Flash memory H8S/2600 Series, 2636 Group MCU, 128K ROM, 4K RAM, FP-128B Pkg; Published: 28-Aug-2009; DatasheetVersion: Rev.7.00, Feb-2009; PackageVersion: Sep-2005; PackageReference: PRQP0128KB-A; Publisher: Altium Limited; PackageDescription: 128-Pin Plastic Quad Flat Pack, 20 x 14 x 2.7 mm Body, 0.5 mm Pitch; Code_JEITA: P-QFP128-14x20-0.50; Code_IPC: SQFP50P1600X2200-128; ComponentLink1Description: Manufacturer Link; ComponentLink1URL: http://sg.renesas.com/fmwk.jsp?cnt=h8s_family_landing.jsp&fp=/products/mpumcu/h8s_family/; ComponentLink2Description: Datasheet; ComponentLink2URL: http://documentation.renesas.com/eng/products/mpumcu/rej09b0103_h8s2639.pdf; ComponentLink3Description: Packaging Specification; ComponentLink3URL: http://sg.renesas.com/media/products/common_info/package/pdf/ic/code/prqp0128kb_a.pdf
footprint PRQP0128KB-A_N (Shrink QFP, 128-Leads, Body 20x14 mm, Pitch 0.5mm, IPC Medium Density)
footprint PRQP0128KB-A_L (Shrink QFP, 128-Leads, Body 20x14 mm, Pitch 0.5mm, IPC High Density)
footprint PRQP0128KB-A_M (Shrink QFP, 128-Leads, Body 20x14 mm, Pitch 0.5mm, IPC Low Density)
part A pins: 5 PA0/A16 (io), 6 PA1/A17/TXD2 (io), 7 PA2/A18/RXD2 (io), 8 PA3/A19/SCK2 (io), 9 PC7/A7 (io), 10 PC6/A6 (io), 11 PC5/A5 (io), 12 PC4/A4 (io), 13 PC3/A3 (io), 14 PC2/A2 (io), 15 PC1/A1 (io), 16 PC0/A0 (io), 17 PD7/D15 (io), 18 PD6/D14 (io), 19 PD5/D13 (io), 20 PD4/D12 (io), 21 PD3/D11 (io), 22 PD2/D10 (io), 23 PD1/D9 (io), 25 PD0/D8 (io), 27 PE7/D7 (io), 28 PE6/D6 (io), 29 PE5/D5 (io), 30 PE4/D4 (io), 31 PE3/D3 (io), 32 PE2/D2 (io), 33 PE1/D1 (io), 34 PE0/D0 (io), 37 HRXD1 (in), 38 HTXD1 (out), 39 PF6/~{AS} (io), 40 PF5/~{RD} (io), 41 PF4/~{HWR} (io), 42 PF3/~{LWR}/~{ADTRG}/~{IRQ3} (io), 45 PH0/PWM1A (io), 46 PH1/PWM1B (io), 47 PH2/PWM1C (io), 48 PH3/PWM1D (io), 50 PH4/PWM1E (io), 51 PH5/PWM1F (io), 52 PH6/PWM1G (io), 53 PH7/PWM1H (io), 55 PJ0/PWM2A (io), 56 PJ1/PWM2B (io), 57 PJ2/PWM2C (io), 58 PJ3/PWM2D (io), 60 PJ4/PWM2E (io), 61 PJ5/PWM2F (io), 62 PJ6/PWM2G (io), 63 PJ7/PWM2H (io), 65 P30/TXD0 (io), 66 P31/RXD0 (io), 69 P32/SCK0/~{IRQ4} (io), 70 P33/TXD1 (io), 71 P34/RXD1 (io), 72 P35/SCK1/~{IRQ5} (io), 73 ~{RES} (in), 74 NMI (in), 75 PLLCAP, 78 OSC2 (in), 79 OSC1 (in), 83 XTAL (in), 85 EXTAL (in), 86 FWE (in), 87 ~{STBY} (in), 88 PF7/F (io), 89 P10/PO8/TIOCA0/A20 (io), 90 P11/PO9/TIOCB0/A21 (io), 91 P12/PO10/TIOCC0/TCLKA/A22 (io), 92 P13/PO11/TIOCD0/TCLKB/A23 (io), 93 P14/PO12/TIOCA1/~{IRQ0} (io), 94 P15/PO13/TIOCB1/TCLKC (io), 95 P16/PO14/TIOCA2/~{IRQ1} (io), 96 P17/PO15/TIOCB2/TCLKD (io), 97 HTXD0 (out), 98 HRXD0 (in), 102 VREF (in), 103 P40/AN0 (io), 104 P41/AN1 (io), 105 P42/AN2 (io), 106 P43/AN3 (io), 107 P44/AN4 (io), 108 P45/AN5 (io), 109 P46/AN6/DA0 (io), 110 P47/AN7/DA1 (io), 111 P90/AN8 (io), 112 P91/AN9 (io), 113 P92/AN10 (io), 114 P93/AN11 (io), 116 MD0 (in), 117 MD1 (in), 118 MD2 (in), 119 PF0/~{IRQ2} (io), 120 PB7/A15/TIOCB5 (io), 121 PB6/A14/TIOCA5 (io), 122 PB5/A13/TIOCB4 (io), 123 PB4/A12/TIOCA4 (io), 124 PB3/A11/TIOCD3 (io), 125 PB2/A10/TIOCC3 (io), 126 PB1/A9/TIOCB3 (io), 128 PB0/A8/TIOCA3 (io)
part B pins: 1 VCC (power), 2 VCC (power), 24 VCC (power), 26 VSS (power), 35 VSS (power), 36 VSS (power), 43 VSS (power), 44 PWMVSS (power), 49 PWMVCC (power), 54 PWMVSS (power), 59 PWMVCC (power), 64 PWMVSS (power), 67 VSS (power), 68 VSS (power), 76 VSS (power), 77 PLLVSS (power), 80 VCC (power), 81 VCC (power), 82 VCL, 84 VSS (power), 99 VSS (power), 101 AVCC (power), 115 AVSS (power), 127 VSS (power)
part C pins: 3 NC, 4 NC, 100 NC

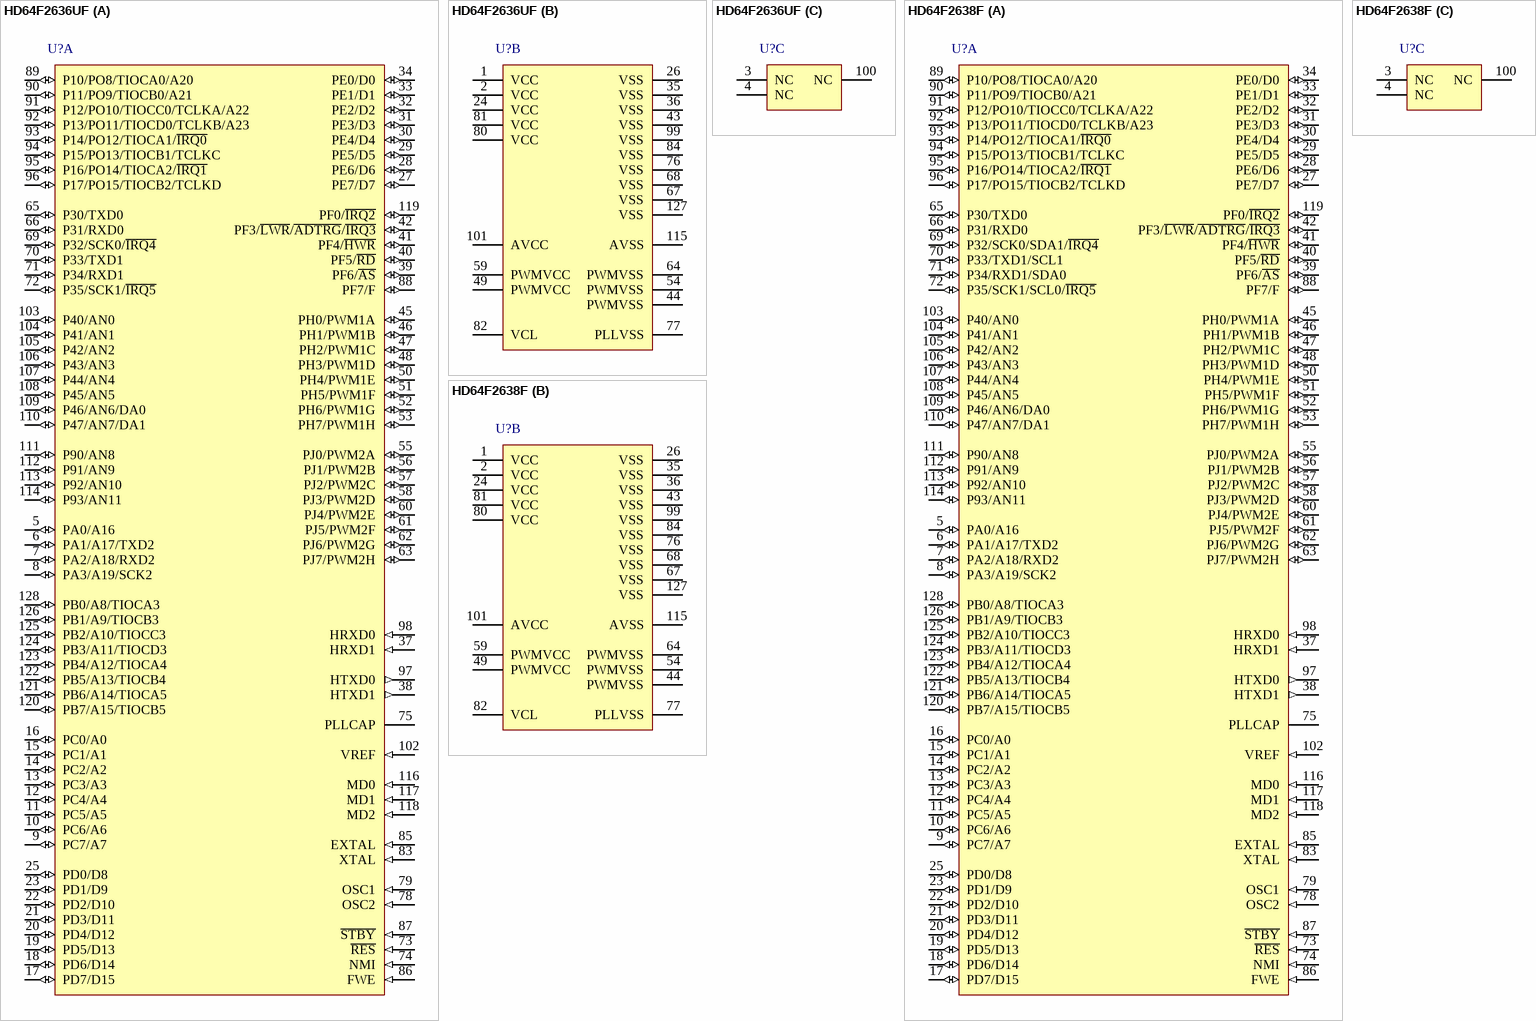
[diagram p82: symbols HD64F2636UF to HD64F2638F]

## HD64F2636UF
designator U?
Flash memory H8S/2600 Series, 2636 Group MCU, 128K ROM, 4K RAM, FP-128B Pkg; Published: 28-Aug-2009; DatasheetVersion: Rev.7.00, Feb-2009; PackageVersion: Sep-2005; PackageReference: PRQP0128KB-A; Publisher: Altium Limited; PackageDescription: 128-Pin Plastic Quad Flat Pack, 20 x 14 x 2.7 mm Body, 0.5 mm Pitch; Code_JEITA: P-QFP128-14x20-0.50; Code_IPC: SQFP50P1600X2200-128; ComponentLink1Description: Manufacturer Link; ComponentLink1URL: http://sg.renesas.com/fmwk.jsp?cnt=h8s_family_landing.jsp&fp=/products/mpumcu/h8s_family/; ComponentLink2Description: Datasheet; ComponentLink2URL: http://documentation.renesas.com/eng/products/mpumcu/rej09b0103_h8s2639.pdf; ComponentLink3Description: Packaging Specification; ComponentLink3URL: http://sg.renesas.com/media/products/common_info/package/pdf/ic/code/prqp0128kb_a.pdf
footprint PRQP0128KB-A_N (Shrink QFP, 128-Leads, Body 20x14 mm, Pitch 0.5mm, IPC Medium Density)
footprint PRQP0128KB-A_L (Shrink QFP, 128-Leads, Body 20x14 mm, Pitch 0.5mm, IPC High Density)
footprint PRQP0128KB-A_M (Shrink QFP, 128-Leads, Body 20x14 mm, Pitch 0.5mm, IPC Low Density)
part A pins: 5 PA0/A16 (io), 6 PA1/A17/TXD2 (io), 7 PA2/A18/RXD2 (io), 8 PA3/A19/SCK2 (io), 9 PC7/A7 (io), 10 PC6/A6 (io), 11 PC5/A5 (io), 12 PC4/A4 (io), 13 PC3/A3 (io), 14 PC2/A2 (io), 15 PC1/A1 (io), 16 PC0/A0 (io), 17 PD7/D15 (io), 18 PD6/D14 (io), 19 PD5/D13 (io), 20 PD4/D12 (io), 21 PD3/D11 (io), 22 PD2/D10 (io), 23 PD1/D9 (io), 25 PD0/D8 (io), 27 PE7/D7 (io), 28 PE6/D6 (io), 29 PE5/D5 (io), 30 PE4/D4 (io), 31 PE3/D3 (io), 32 PE2/D2 (io), 33 PE1/D1 (io), 34 PE0/D0 (io), 37 HRXD1 (in), 38 HTXD1 (out), 39 PF6/~{AS} (io), 40 PF5/~{RD} (io), 41 PF4/~{HWR} (io), 42 PF3/~{LWR}/~{ADTRG}/~{IRQ3} (io), 45 PH0/PWM1A (io), 46 PH1/PWM1B (io), 47 PH2/PWM1C (io), 48 PH3/PWM1D (io), 50 PH4/PWM1E (io), 51 PH5/PWM1F (io), 52 PH6/PWM1G (io), 53 PH7/PWM1H (io), 55 PJ0/PWM2A (io), 56 PJ1/PWM2B (io), 57 PJ2/PWM2C (io), 58 PJ3/PWM2D (io), 60 PJ4/PWM2E (io), 61 PJ5/PWM2F (io), 62 PJ6/PWM2G (io), 63 PJ7/PWM2H (io), 65 P30/TXD0 (io), 66 P31/RXD0 (io), 69 P32/SCK0/~{IRQ4} (io), 70 P33/TXD1 (io), 71 P34/RXD1 (io), 72 P35/SCK1/~{IRQ5} (io), 73 ~{RES} (in), 74 NMI (in), 75 PLLCAP, 78 OSC2 (in), 79 OSC1 (in), 83 XTAL (in), 85 EXTAL (in), 86 FWE (in), 87 ~{STBY} (in), 88 PF7/F (io), 89 P10/PO8/TIOCA0/A20 (io), 90 P11/PO9/TIOCB0/A21 (io), 91 P12/PO10/TIOCC0/TCLKA/A22 (io), 92 P13/PO11/TIOCD0/TCLKB/A23 (io), 93 P14/PO12/TIOCA1/~{IRQ0} (io), 94 P15/PO13/TIOCB1/TCLKC (io), 95 P16/PO14/TIOCA2/~{IRQ1} (io), 96 P17/PO15/TIOCB2/TCLKD (io), 97 HTXD0 (out), 98 HRXD0 (in), 102 VREF (in), 103 P40/AN0 (io), 104 P41/AN1 (io), 105 P42/AN2 (io), 106 P43/AN3 (io), 107 P44/AN4 (io), 108 P45/AN5 (io), 109 P46/AN6/DA0 (io), 110 P47/AN7/DA1 (io), 111 P90/AN8 (io), 112 P91/AN9 (io), 113 P92/AN10 (io), 114 P93/AN11 (io), 116 MD0 (in), 117 MD1 (in), 118 MD2 (in), 119 PF0/~{IRQ2} (io), 120 PB7/A15/TIOCB5 (io), 121 PB6/A14/TIOCA5 (io), 122 PB5/A13/TIOCB4 (io), 123 PB4/A12/TIOCA4 (io), 124 PB3/A11/TIOCD3 (io), 125 PB2/A10/TIOCC3 (io), 126 PB1/A9/TIOCB3 (io), 128 PB0/A8/TIOCA3 (io)
part B pins: 1 VCC (power), 2 VCC (power), 24 VCC (power), 26 VSS (power), 35 VSS (power), 36 VSS (power), 43 VSS (power), 44 PWMVSS (power), 49 PWMVCC (power), 54 PWMVSS (power), 59 PWMVCC (power), 64 PWMVSS (power), 67 VSS (power), 68 VSS (power), 76 VSS (power), 77 PLLVSS (power), 80 VCC (power), 81 VCC (power), 82 VCL, 84 VSS (power), 99 VSS (power), 101 AVCC (power), 115 AVSS (power), 127 VSS (power)
part C pins: 3 NC, 4 NC, 100 NC

## HD64F2638F
designator U?
Flash memory H8S/2600 Series, 2638 Group MCU, 256K ROM, 16K RAM, FP-128B Pkg; Published: 28-Aug-2009; DatasheetVersion: Rev.7.00, Feb-2009; PackageVersion: Sep-2005; PackageReference: PRQP0128KB-A; Publisher: Altium Limited; PackageDescription: 128-Pin Plastic Quad Flat Pack, 20 x 14 x 2.7 mm Body, 0.5 mm Pitch; Code_JEITA: P-QFP128-14x20-0.50; Code_IPC: SQFP50P1600X2200-128; ComponentLink1Description: Manufacturer Link; ComponentLink1URL: http://sg.renesas.com/fmwk.jsp?cnt=h8s_family_landing.jsp&fp=/products/mpumcu/h8s_family/; ComponentLink2Description: Datasheet; ComponentLink2URL: http://documentation.renesas.com/eng/products/mpumcu/rej09b0103_h8s2639.pdf; ComponentLink3Description: Packaging Specification; ComponentLink3URL: http://sg.renesas.com/media/products/common_info/package/pdf/ic/code/prqp0128kb_a.pdf
footprint PRQP0128KB-A_N (Shrink QFP, 128-Leads, Body 20x14 mm, Pitch 0.5mm, IPC Medium Density)
footprint PRQP0128KB-A_L (Shrink QFP, 128-Leads, Body 20x14 mm, Pitch 0.5mm, IPC High Density)
footprint PRQP0128KB-A_M (Shrink QFP, 128-Leads, Body 20x14 mm, Pitch 0.5mm, IPC Low Density)
part A pins: 5 PA0/A16 (io), 6 PA1/A17/TXD2 (io), 7 PA2/A18/RXD2 (io), 8 PA3/A19/SCK2 (io), 9 PC7/A7 (io), 10 PC6/A6 (io), 11 PC5/A5 (io), 12 PC4/A4 (io), 13 PC3/A3 (io), 14 PC2/A2 (io), 15 PC1/A1 (io), 16 PC0/A0 (io), 17 PD7/D15 (io), 18 PD6/D14 (io), 19 PD5/D13 (io), 20 PD4/D12 (io), 21 PD3/D11 (io), 22 PD2/D10 (io), 23 PD1/D9 (io), 25 PD0/D8 (io), 27 PE7/D7 (io), 28 PE6/D6 (io), 29 PE5/D5 (io), 30 PE4/D4 (io), 31 PE3/D3 (io), 32 PE2/D2 (io), 33 PE1/D1 (io), 34 PE0/D0 (io), 37 HRXD1 (in), 38 HTXD1 (out), 39 PF6/~{AS} (io), 40 PF5/~{RD} (io), 41 PF4/~{HWR} (io), 42 PF3/~{LWR}/~{ADTRG}/~{IRQ3} (io), 45 PH0/PWM1A (io), 46 PH1/PWM1B (io), 47 PH2/PWM1C (io), 48 PH3/PWM1D (io), 50 PH4/PWM1E (io), 51 PH5/PWM1F (io), 52 PH6/PWM1G (io), 53 PH7/PWM1H (io), 55 PJ0/PWM2A (io), 56 PJ1/PWM2B (io), 57 PJ2/PWM2C (io), 58 PJ3/PWM2D (io), 60 PJ4/PWM2E (io), 61 PJ5/PWM2F (io), 62 PJ6/PWM2G (io), 63 PJ7/PWM2H (io), 65 P30/TXD0 (io), 66 P31/RXD0 (io), 69 P32/SCK0/SDA1/~{IRQ4} (io), 70 P33/TXD1/SCL1 (io), 71 P34/RXD1/SDA0 (io), 72 P35/SCK1/SCL0/~{IRQ5} (io), 73 ~{RES} (in), 74 NMI (in), 75 PLLCAP, 78 OSC2 (in), 79 OSC1 (in), 83 XTAL (in), 85 EXTAL (in), 86 FWE (in), 87 ~{STBY} (in), 88 PF7/F (io), 89 P10/PO8/TIOCA0/A20 (io), 90 P11/PO9/TIOCB0/A21 (io), 91 P12/PO10/TIOCC0/TCLKA/A22 (io), 92 P13/PO11/TIOCD0/TCLKB/A23 (io), 93 P14/PO12/TIOCA1/~{IRQ0} (io), 94 P15/PO13/TIOCB1/TCLKC (io), 95 P16/PO14/TIOCA2/~{IRQ1} (io), 96 P17/PO15/TIOCB2/TCLKD (io), 97 HTXD0 (out), 98 HRXD0 (in), 102 VREF (in), 103 P40/AN0 (io), 104 P41/AN1 (io), 105 P42/AN2 (io), 106 P43/AN3 (io), 107 P44/AN4 (io), 108 P45/AN5 (io), 109 P46/AN6/DA0 (io), 110 P47/AN7/DA1 (io), 111 P90/AN8 (io), 112 P91/AN9 (io), 113 P92/AN10 (io), 114 P93/AN11 (io), 116 MD0 (in), 117 MD1 (in), 118 MD2 (in), 119 PF0/~{IRQ2} (io), 120 PB7/A15/TIOCB5 (io), 121 PB6/A14/TIOCA5 (io), 122 PB5/A13/TIOCB4 (io), 123 PB4/A12/TIOCA4 (io), 124 PB3/A11/TIOCD3 (io), 125 PB2/A10/TIOCC3 (io), 126 PB1/A9/TIOCB3 (io), 128 PB0/A8/TIOCA3 (io)
part B pins: 1 VCC (power), 2 VCC (power), 24 VCC (power), 26 VSS (power), 35 VSS (power), 36 VSS (power), 43 VSS (power), 44 PWMVSS (power), 49 PWMVCC (power), 54 PWMVSS (power), 59 PWMVCC (power), 64 PWMVSS (power), 67 VSS (power), 68 VSS (power), 76 VSS (power), 77 PLLVSS (power), 80 VCC (power), 81 VCC (power), 82 VCL, 84 VSS (power), 99 VSS (power), 101 AVCC (power), 115 AVSS (power), 127 VSS (power)
part C pins: 3 NC, 4 NC, 100 NC

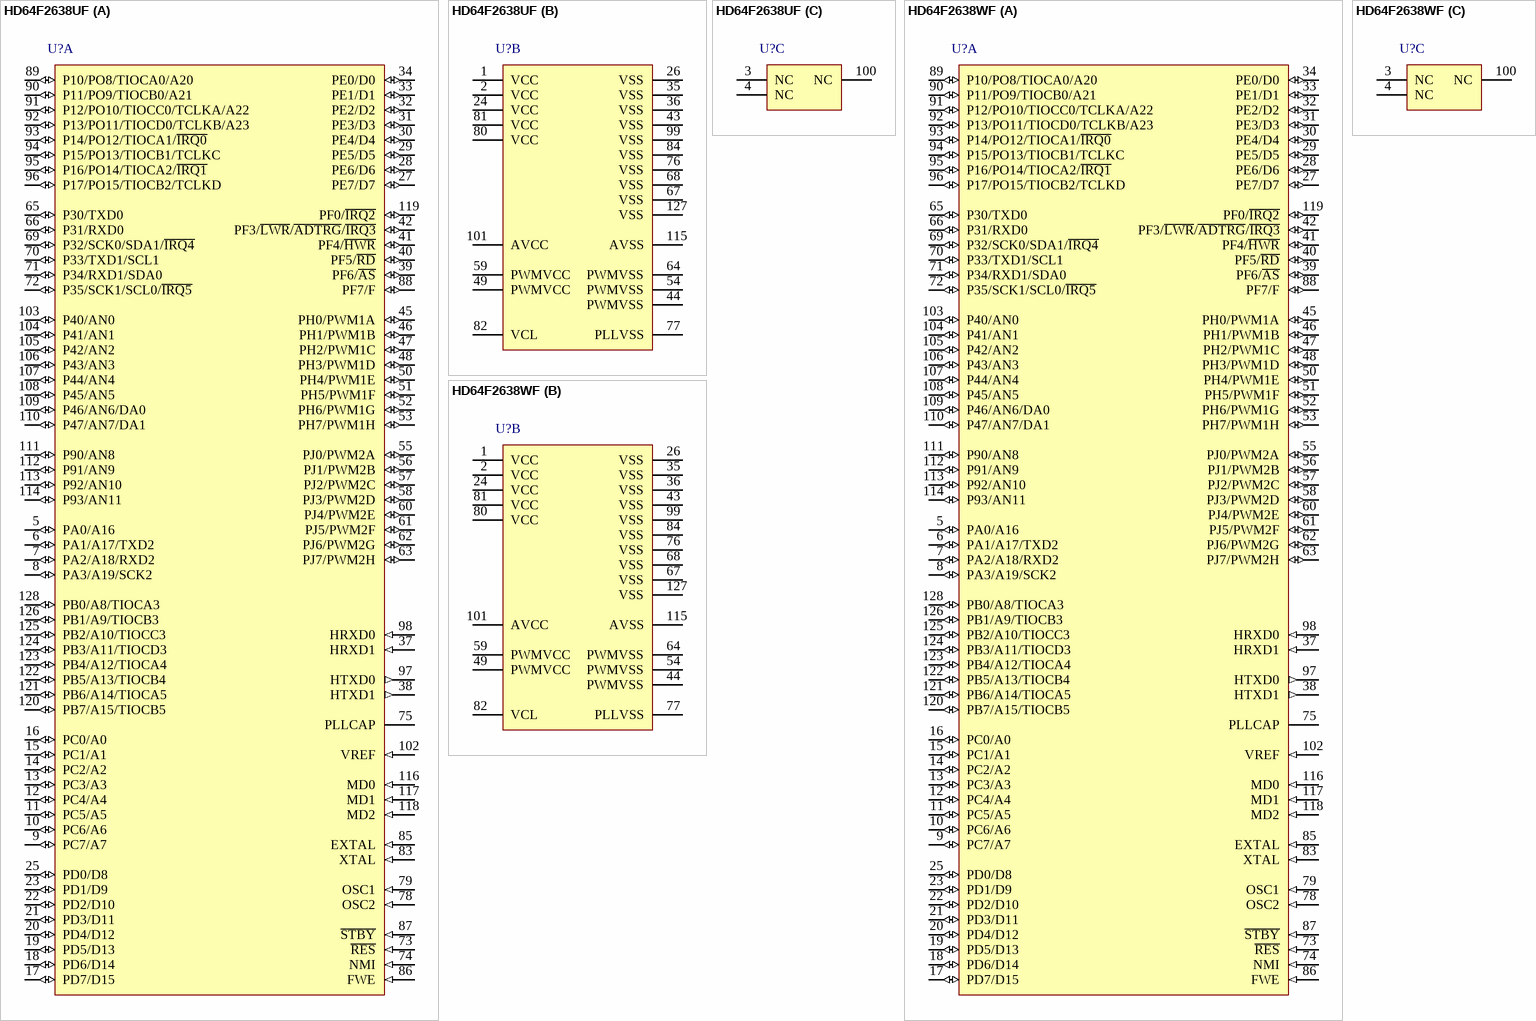
[diagram p83: symbols HD64F2638UF to HD64F2638WF]

## HD64F2638UF
designator U?
Flash memory H8S/2600 Series, 2638 Group MCU, 256K ROM, 16K RAM, FP-128B Pkg; Published: 28-Aug-2009; DatasheetVersion: Rev.7.00, Feb-2009; PackageVersion: Sep-2005; PackageReference: PRQP0128KB-A; Publisher: Altium Limited; PackageDescription: 128-Pin Plastic Quad Flat Pack, 20 x 14 x 2.7 mm Body, 0.5 mm Pitch; Code_JEITA: P-QFP128-14x20-0.50; Code_IPC: SQFP50P1600X2200-128; ComponentLink1Description: Manufacturer Link; ComponentLink1URL: http://sg.renesas.com/fmwk.jsp?cnt=h8s_family_landing.jsp&fp=/products/mpumcu/h8s_family/; ComponentLink2Description: Datasheet; ComponentLink2URL: http://documentation.renesas.com/eng/products/mpumcu/rej09b0103_h8s2639.pdf; ComponentLink3Description: Packaging Specification; ComponentLink3URL: http://sg.renesas.com/media/products/common_info/package/pdf/ic/code/prqp0128kb_a.pdf
footprint PRQP0128KB-A_N (Shrink QFP, 128-Leads, Body 20x14 mm, Pitch 0.5mm, IPC Medium Density)
footprint PRQP0128KB-A_L (Shrink QFP, 128-Leads, Body 20x14 mm, Pitch 0.5mm, IPC High Density)
footprint PRQP0128KB-A_M (Shrink QFP, 128-Leads, Body 20x14 mm, Pitch 0.5mm, IPC Low Density)
part A pins: 5 PA0/A16 (io), 6 PA1/A17/TXD2 (io), 7 PA2/A18/RXD2 (io), 8 PA3/A19/SCK2 (io), 9 PC7/A7 (io), 10 PC6/A6 (io), 11 PC5/A5 (io), 12 PC4/A4 (io), 13 PC3/A3 (io), 14 PC2/A2 (io), 15 PC1/A1 (io), 16 PC0/A0 (io), 17 PD7/D15 (io), 18 PD6/D14 (io), 19 PD5/D13 (io), 20 PD4/D12 (io), 21 PD3/D11 (io), 22 PD2/D10 (io), 23 PD1/D9 (io), 25 PD0/D8 (io), 27 PE7/D7 (io), 28 PE6/D6 (io), 29 PE5/D5 (io), 30 PE4/D4 (io), 31 PE3/D3 (io), 32 PE2/D2 (io), 33 PE1/D1 (io), 34 PE0/D0 (io), 37 HRXD1 (in), 38 HTXD1 (out), 39 PF6/~{AS} (io), 40 PF5/~{RD} (io), 41 PF4/~{HWR} (io), 42 PF3/~{LWR}/~{ADTRG}/~{IRQ3} (io), 45 PH0/PWM1A (io), 46 PH1/PWM1B (io), 47 PH2/PWM1C (io), 48 PH3/PWM1D (io), 50 PH4/PWM1E (io), 51 PH5/PWM1F (io), 52 PH6/PWM1G (io), 53 PH7/PWM1H (io), 55 PJ0/PWM2A (io), 56 PJ1/PWM2B (io), 57 PJ2/PWM2C (io), 58 PJ3/PWM2D (io), 60 PJ4/PWM2E (io), 61 PJ5/PWM2F (io), 62 PJ6/PWM2G (io), 63 PJ7/PWM2H (io), 65 P30/TXD0 (io), 66 P31/RXD0 (io), 69 P32/SCK0/SDA1/~{IRQ4} (io), 70 P33/TXD1/SCL1 (io), 71 P34/RXD1/SDA0 (io), 72 P35/SCK1/SCL0/~{IRQ5} (io), 73 ~{RES} (in), 74 NMI (in), 75 PLLCAP, 78 OSC2 (in), 79 OSC1 (in), 83 XTAL (in), 85 EXTAL (in), 86 FWE (in), 87 ~{STBY} (in), 88 PF7/F (io), 89 P10/PO8/TIOCA0/A20 (io), 90 P11/PO9/TIOCB0/A21 (io), 91 P12/PO10/TIOCC0/TCLKA/A22 (io), 92 P13/PO11/TIOCD0/TCLKB/A23 (io), 93 P14/PO12/TIOCA1/~{IRQ0} (io), 94 P15/PO13/TIOCB1/TCLKC (io), 95 P16/PO14/TIOCA2/~{IRQ1} (io), 96 P17/PO15/TIOCB2/TCLKD (io), 97 HTXD0 (out), 98 HRXD0 (in), 102 VREF (in), 103 P40/AN0 (io), 104 P41/AN1 (io), 105 P42/AN2 (io), 106 P43/AN3 (io), 107 P44/AN4 (io), 108 P45/AN5 (io), 109 P46/AN6/DA0 (io), 110 P47/AN7/DA1 (io), 111 P90/AN8 (io), 112 P91/AN9 (io), 113 P92/AN10 (io), 114 P93/AN11 (io), 116 MD0 (in), 117 MD1 (in), 118 MD2 (in), 119 PF0/~{IRQ2} (io), 120 PB7/A15/TIOCB5 (io), 121 PB6/A14/TIOCA5 (io), 122 PB5/A13/TIOCB4 (io), 123 PB4/A12/TIOCA4 (io), 124 PB3/A11/TIOCD3 (io), 125 PB2/A10/TIOCC3 (io), 126 PB1/A9/TIOCB3 (io), 128 PB0/A8/TIOCA3 (io)
part B pins: 1 VCC (power), 2 VCC (power), 24 VCC (power), 26 VSS (power), 35 VSS (power), 36 VSS (power), 43 VSS (power), 44 PWMVSS (power), 49 PWMVCC (power), 54 PWMVSS (power), 59 PWMVCC (power), 64 PWMVSS (power), 67 VSS (power), 68 VSS (power), 76 VSS (power), 77 PLLVSS (power), 80 VCC (power), 81 VCC (power), 82 VCL, 84 VSS (power), 99 VSS (power), 101 AVCC (power), 115 AVSS (power), 127 VSS (power)
part C pins: 3 NC, 4 NC, 100 NC

## HD64F2638WF
designator U?
Flash memory H8S/2600 Series, 2638 Group MCU, 256K ROM, 16K RAM, FP-128B Pkg; Published: 28-Aug-2009; DatasheetVersion: Rev.7.00, Feb-2009; PackageVersion: Sep-2005; PackageReference: PRQP0128KB-A; Publisher: Altium Limited; PackageDescription: 128-Pin Plastic Quad Flat Pack, 20 x 14 x 2.7 mm Body, 0.5 mm Pitch; Code_JEITA: P-QFP128-14x20-0.50; Code_IPC: SQFP50P1600X2200-128; ComponentLink1Description: Manufacturer Link; ComponentLink1URL: http://sg.renesas.com/fmwk.jsp?cnt=h8s_family_landing.jsp&fp=/products/mpumcu/h8s_family/; ComponentLink2Description: Datasheet; ComponentLink2URL: http://documentation.renesas.com/eng/products/mpumcu/rej09b0103_h8s2639.pdf; ComponentLink3Description: Packaging Specification; ComponentLink3URL: http://sg.renesas.com/media/products/common_info/package/pdf/ic/code/prqp0128kb_a.pdf
footprint PRQP0128KB-A_N (Shrink QFP, 128-Leads, Body 20x14 mm, Pitch 0.5mm, IPC Medium Density)
footprint PRQP0128KB-A_L (Shrink QFP, 128-Leads, Body 20x14 mm, Pitch 0.5mm, IPC High Density)
footprint PRQP0128KB-A_M (Shrink QFP, 128-Leads, Body 20x14 mm, Pitch 0.5mm, IPC Low Density)
part A pins: 5 PA0/A16 (io), 6 PA1/A17/TXD2 (io), 7 PA2/A18/RXD2 (io), 8 PA3/A19/SCK2 (io), 9 PC7/A7 (io), 10 PC6/A6 (io), 11 PC5/A5 (io), 12 PC4/A4 (io), 13 PC3/A3 (io), 14 PC2/A2 (io), 15 PC1/A1 (io), 16 PC0/A0 (io), 17 PD7/D15 (io), 18 PD6/D14 (io), 19 PD5/D13 (io), 20 PD4/D12 (io), 21 PD3/D11 (io), 22 PD2/D10 (io), 23 PD1/D9 (io), 25 PD0/D8 (io), 27 PE7/D7 (io), 28 PE6/D6 (io), 29 PE5/D5 (io), 30 PE4/D4 (io), 31 PE3/D3 (io), 32 PE2/D2 (io), 33 PE1/D1 (io), 34 PE0/D0 (io), 37 HRXD1 (in), 38 HTXD1 (out), 39 PF6/~{AS} (io), 40 PF5/~{RD} (io), 41 PF4/~{HWR} (io), 42 PF3/~{LWR}/~{ADTRG}/~{IRQ3} (io), 45 PH0/PWM1A (io), 46 PH1/PWM1B (io), 47 PH2/PWM1C (io), 48 PH3/PWM1D (io), 50 PH4/PWM1E (io), 51 PH5/PWM1F (io), 52 PH6/PWM1G (io), 53 PH7/PWM1H (io), 55 PJ0/PWM2A (io), 56 PJ1/PWM2B (io), 57 PJ2/PWM2C (io), 58 PJ3/PWM2D (io), 60 PJ4/PWM2E (io), 61 PJ5/PWM2F (io), 62 PJ6/PWM2G (io), 63 PJ7/PWM2H (io), 65 P30/TXD0 (io), 66 P31/RXD0 (io), 69 P32/SCK0/SDA1/~{IRQ4} (io), 70 P33/TXD1/SCL1 (io), 71 P34/RXD1/SDA0 (io), 72 P35/SCK1/SCL0/~{IRQ5} (io), 73 ~{RES} (in), 74 NMI (in), 75 PLLCAP, 78 OSC2 (in), 79 OSC1 (in), 83 XTAL (in), 85 EXTAL (in), 86 FWE (in), 87 ~{STBY} (in), 88 PF7/F (io), 89 P10/PO8/TIOCA0/A20 (io), 90 P11/PO9/TIOCB0/A21 (io), 91 P12/PO10/TIOCC0/TCLKA/A22 (io), 92 P13/PO11/TIOCD0/TCLKB/A23 (io), 93 P14/PO12/TIOCA1/~{IRQ0} (io), 94 P15/PO13/TIOCB1/TCLKC (io), 95 P16/PO14/TIOCA2/~{IRQ1} (io), 96 P17/PO15/TIOCB2/TCLKD (io), 97 HTXD0 (out), 98 HRXD0 (in), 102 VREF (in), 103 P40/AN0 (io), 104 P41/AN1 (io), 105 P42/AN2 (io), 106 P43/AN3 (io), 107 P44/AN4 (io), 108 P45/AN5 (io), 109 P46/AN6/DA0 (io), 110 P47/AN7/DA1 (io), 111 P90/AN8 (io), 112 P91/AN9 (io), 113 P92/AN10 (io), 114 P93/AN11 (io), 116 MD0 (in), 117 MD1 (in), 118 MD2 (in), 119 PF0/~{IRQ2} (io), 120 PB7/A15/TIOCB5 (io), 121 PB6/A14/TIOCA5 (io), 122 PB5/A13/TIOCB4 (io), 123 PB4/A12/TIOCA4 (io), 124 PB3/A11/TIOCD3 (io), 125 PB2/A10/TIOCC3 (io), 126 PB1/A9/TIOCB3 (io), 128 PB0/A8/TIOCA3 (io)
part B pins: 1 VCC (power), 2 VCC (power), 24 VCC (power), 26 VSS (power), 35 VSS (power), 36 VSS (power), 43 VSS (power), 44 PWMVSS (power), 49 PWMVCC (power), 54 PWMVSS (power), 59 PWMVCC (power), 64 PWMVSS (power), 67 VSS (power), 68 VSS (power), 76 VSS (power), 77 PLLVSS (power), 80 VCC (power), 81 VCC (power), 82 VCL, 84 VSS (power), 99 VSS (power), 101 AVCC (power), 115 AVSS (power), 127 VSS (power)
part C pins: 3 NC, 4 NC, 100 NC

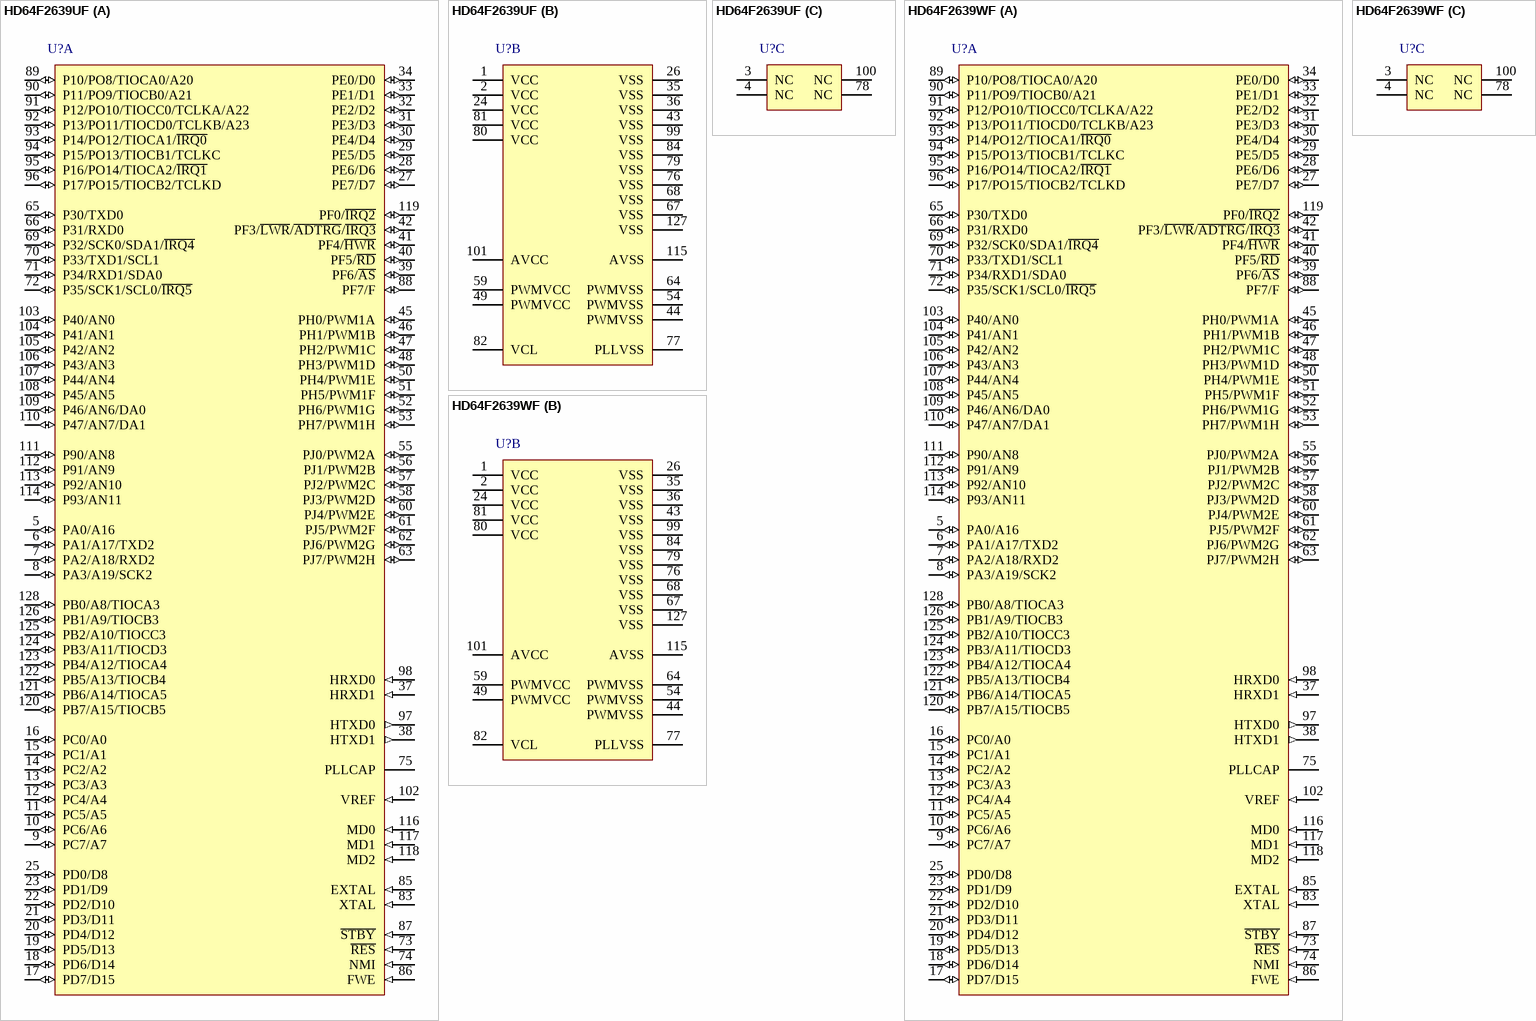
[diagram p84: symbols HD64F2639UF to HD64F2639WF]

## HD64F2639UF
designator U?
Flash memory H8S/2600 Series, 2639 Group MCU, 256K ROM, 16K RAM, FP-128B Pkg; Published: 28-Aug-2009; DatasheetVersion: Rev.7.00, Feb-2009; PackageVersion: Sep-2005; PackageReference: PRQP0128KB-A; Publisher: Altium Limited; PackageDescription: 128-Pin Plastic Quad Flat Pack, 20 x 14 x 2.7 mm Body, 0.5 mm Pitch; Code_JEITA: P-QFP128-14x20-0.50; Code_IPC: SQFP50P1600X2200-128; ComponentLink1Description: Manufacturer Link; ComponentLink1URL: http://sg.renesas.com/fmwk.jsp?cnt=h8s_family_landing.jsp&fp=/products/mpumcu/h8s_family/; ComponentLink2Description: Datasheet; ComponentLink2URL: http://documentation.renesas.com/eng/products/mpumcu/rej09b0103_h8s2639.pdf; ComponentLink3Description: Packaging Specification; ComponentLink3URL: http://sg.renesas.com/media/products/common_info/package/pdf/ic/code/prqp0128kb_a.pdf
footprint PRQP0128KB-A_N (Shrink QFP, 128-Leads, Body 20x14 mm, Pitch 0.5mm, IPC Medium Density)
footprint PRQP0128KB-A_L (Shrink QFP, 128-Leads, Body 20x14 mm, Pitch 0.5mm, IPC High Density)
footprint PRQP0128KB-A_M (Shrink QFP, 128-Leads, Body 20x14 mm, Pitch 0.5mm, IPC Low Density)
part A pins: 5 PA0/A16 (io), 6 PA1/A17/TXD2 (io), 7 PA2/A18/RXD2 (io), 8 PA3/A19/SCK2 (io), 9 PC7/A7 (io), 10 PC6/A6 (io), 11 PC5/A5 (io), 12 PC4/A4 (io), 13 PC3/A3 (io), 14 PC2/A2 (io), 15 PC1/A1 (io), 16 PC0/A0 (io), 17 PD7/D15 (io), 18 PD6/D14 (io), 19 PD5/D13 (io), 20 PD4/D12 (io), 21 PD3/D11 (io), 22 PD2/D10 (io), 23 PD1/D9 (io), 25 PD0/D8 (io), 27 PE7/D7 (io), 28 PE6/D6 (io), 29 PE5/D5 (io), 30 PE4/D4 (io), 31 PE3/D3 (io), 32 PE2/D2 (io), 33 PE1/D1 (io), 34 PE0/D0 (io), 37 HRXD1 (in), 38 HTXD1 (out), 39 PF6/~{AS} (io), 40 PF5/~{RD} (io), 41 PF4/~{HWR} (io), 42 PF3/~{LWR}/~{ADTRG}/~{IRQ3} (io), 45 PH0/PWM1A (io), 46 PH1/PWM1B (io), 47 PH2/PWM1C (io), 48 PH3/PWM1D (io), 50 PH4/PWM1E (io), 51 PH5/PWM1F (io), 52 PH6/PWM1G (io), 53 PH7/PWM1H (io), 55 PJ0/PWM2A (io), 56 PJ1/PWM2B (io), 57 PJ2/PWM2C (io), 58 PJ3/PWM2D (io), 60 PJ4/PWM2E (io), 61 PJ5/PWM2F (io), 62 PJ6/PWM2G (io), 63 PJ7/PWM2H (io), 65 P30/TXD0 (io), 66 P31/RXD0 (io), 69 P32/SCK0/SDA1/~{IRQ4} (io), 70 P33/TXD1/SCL1 (io), 71 P34/RXD1/SDA0 (io), 72 P35/SCK1/SCL0/~{IRQ5} (io), 73 ~{RES} (in), 74 NMI (in), 75 PLLCAP, 83 XTAL (in), 85 EXTAL (in), 86 FWE (in), 87 ~{STBY} (in), 88 PF7/F (io), 89 P10/PO8/TIOCA0/A20 (io), 90 P11/PO9/TIOCB0/A21 (io), 91 P12/PO10/TIOCC0/TCLKA/A22 (io), 92 P13/PO11/TIOCD0/TCLKB/A23 (io), 93 P14/PO12/TIOCA1/~{IRQ0} (io), 94 P15/PO13/TIOCB1/TCLKC (io), 95 P16/PO14/TIOCA2/~{IRQ1} (io), 96 P17/PO15/TIOCB2/TCLKD (io), 97 HTXD0 (out), 98 HRXD0 (in), 102 VREF (in), 103 P40/AN0 (io), 104 P41/AN1 (io), 105 P42/AN2 (io), 106 P43/AN3 (io), 107 P44/AN4 (io), 108 P45/AN5 (io), 109 P46/AN6/DA0 (io), 110 P47/AN7/DA1 (io), 111 P90/AN8 (io), 112 P91/AN9 (io), 113 P92/AN10 (io), 114 P93/AN11 (io), 116 MD0 (in), 117 MD1 (in), 118 MD2 (in), 119 PF0/~{IRQ2} (io), 120 PB7/A15/TIOCB5 (io), 121 PB6/A14/TIOCA5 (io), 122 PB5/A13/TIOCB4 (io), 123 PB4/A12/TIOCA4 (io), 124 PB3/A11/TIOCD3 (io), 125 PB2/A10/TIOCC3 (io), 126 PB1/A9/TIOCB3 (io), 128 PB0/A8/TIOCA3 (io)
part B pins: 1 VCC (power), 2 VCC (power), 24 VCC (power), 26 VSS (power), 35 VSS (power), 36 VSS (power), 43 VSS (power), 44 PWMVSS (power), 49 PWMVCC (power), 54 PWMVSS (power), 59 PWMVCC (power), 64 PWMVSS (power), 67 VSS (power), 68 VSS (power), 76 VSS (power), 77 PLLVSS (power), 79 VSS (power), 80 VCC (power), 81 VCC (power), 82 VCL, 84 VSS (power), 99 VSS (power), 101 AVCC (power), 115 AVSS (power), 127 VSS (power)
part C pins: 3 NC, 4 NC, 78 NC, 100 NC

## HD64F2639WF
designator U?
Flash memory H8S/2600 Series, 2639 Group MCU, 256K ROM, 16K RAM, FP-128B Pkg; Published: 28-Aug-2009; DatasheetVersion: Rev.7.00, Feb-2009; PackageVersion: Sep-2005; PackageReference: PRQP0128KB-A; Publisher: Altium Limited; PackageDescription: 128-Pin Plastic Quad Flat Pack, 20 x 14 x 2.7 mm Body, 0.5 mm Pitch; Code_JEITA: P-QFP128-14x20-0.50; Code_IPC: SQFP50P1600X2200-128; ComponentLink1Description: Manufacturer Link; ComponentLink1URL: http://sg.renesas.com/fmwk.jsp?cnt=h8s_family_landing.jsp&fp=/products/mpumcu/h8s_family/; ComponentLink2Description: Datasheet; ComponentLink2URL: http://documentation.renesas.com/eng/products/mpumcu/rej09b0103_h8s2639.pdf; ComponentLink3Description: Packaging Specification; ComponentLink3URL: http://sg.renesas.com/media/products/common_info/package/pdf/ic/code/prqp0128kb_a.pdf
footprint PRQP0128KB-A_N (Shrink QFP, 128-Leads, Body 20x14 mm, Pitch 0.5mm, IPC Medium Density)
footprint PRQP0128KB-A_L (Shrink QFP, 128-Leads, Body 20x14 mm, Pitch 0.5mm, IPC High Density)
footprint PRQP0128KB-A_M (Shrink QFP, 128-Leads, Body 20x14 mm, Pitch 0.5mm, IPC Low Density)
part A pins: 5 PA0/A16 (io), 6 PA1/A17/TXD2 (io), 7 PA2/A18/RXD2 (io), 8 PA3/A19/SCK2 (io), 9 PC7/A7 (io), 10 PC6/A6 (io), 11 PC5/A5 (io), 12 PC4/A4 (io), 13 PC3/A3 (io), 14 PC2/A2 (io), 15 PC1/A1 (io), 16 PC0/A0 (io), 17 PD7/D15 (io), 18 PD6/D14 (io), 19 PD5/D13 (io), 20 PD4/D12 (io), 21 PD3/D11 (io), 22 PD2/D10 (io), 23 PD1/D9 (io), 25 PD0/D8 (io), 27 PE7/D7 (io), 28 PE6/D6 (io), 29 PE5/D5 (io), 30 PE4/D4 (io), 31 PE3/D3 (io), 32 PE2/D2 (io), 33 PE1/D1 (io), 34 PE0/D0 (io), 37 HRXD1 (in), 38 HTXD1 (out), 39 PF6/~{AS} (io), 40 PF5/~{RD} (io), 41 PF4/~{HWR} (io), 42 PF3/~{LWR}/~{ADTRG}/~{IRQ3} (io), 45 PH0/PWM1A (io), 46 PH1/PWM1B (io), 47 PH2/PWM1C (io), 48 PH3/PWM1D (io), 50 PH4/PWM1E (io), 51 PH5/PWM1F (io), 52 PH6/PWM1G (io), 53 PH7/PWM1H (io), 55 PJ0/PWM2A (io), 56 PJ1/PWM2B (io), 57 PJ2/PWM2C (io), 58 PJ3/PWM2D (io), 60 PJ4/PWM2E (io), 61 PJ5/PWM2F (io), 62 PJ6/PWM2G (io), 63 PJ7/PWM2H (io), 65 P30/TXD0 (io), 66 P31/RXD0 (io), 69 P32/SCK0/SDA1/~{IRQ4} (io), 70 P33/TXD1/SCL1 (io), 71 P34/RXD1/SDA0 (io), 72 P35/SCK1/SCL0/~{IRQ5} (io), 73 ~{RES} (in), 74 NMI (in), 75 PLLCAP, 83 XTAL (in), 85 EXTAL (in), 86 FWE (in), 87 ~{STBY} (in), 88 PF7/F (io), 89 P10/PO8/TIOCA0/A20 (io), 90 P11/PO9/TIOCB0/A21 (io), 91 P12/PO10/TIOCC0/TCLKA/A22 (io), 92 P13/PO11/TIOCD0/TCLKB/A23 (io), 93 P14/PO12/TIOCA1/~{IRQ0} (io), 94 P15/PO13/TIOCB1/TCLKC (io), 95 P16/PO14/TIOCA2/~{IRQ1} (io), 96 P17/PO15/TIOCB2/TCLKD (io), 97 HTXD0 (out), 98 HRXD0 (in), 102 VREF (in), 103 P40/AN0 (io), 104 P41/AN1 (io), 105 P42/AN2 (io), 106 P43/AN3 (io), 107 P44/AN4 (io), 108 P45/AN5 (io), 109 P46/AN6/DA0 (io), 110 P47/AN7/DA1 (io), 111 P90/AN8 (io), 112 P91/AN9 (io), 113 P92/AN10 (io), 114 P93/AN11 (io), 116 MD0 (in), 117 MD1 (in), 118 MD2 (in), 119 PF0/~{IRQ2} (io), 120 PB7/A15/TIOCB5 (io), 121 PB6/A14/TIOCA5 (io), 122 PB5/A13/TIOCB4 (io), 123 PB4/A12/TIOCA4 (io), 124 PB3/A11/TIOCD3 (io), 125 PB2/A10/TIOCC3 (io), 126 PB1/A9/TIOCB3 (io), 128 PB0/A8/TIOCA3 (io)
part B pins: 1 VCC (power), 2 VCC (power), 24 VCC (power), 26 VSS (power), 35 VSS (power), 36 VSS (power), 43 VSS (power), 44 PWMVSS (power), 49 PWMVCC (power), 54 PWMVSS (power), 59 PWMVCC (power), 64 PWMVSS (power), 67 VSS (power), 68 VSS (power), 76 VSS (power), 77 PLLVSS (power), 79 VSS (power), 80 VCC (power), 81 VCC (power), 82 VCL, 84 VSS (power), 99 VSS (power), 101 AVCC (power), 115 AVSS (power), 127 VSS (power)
part C pins: 3 NC, 4 NC, 78 NC, 100 NC

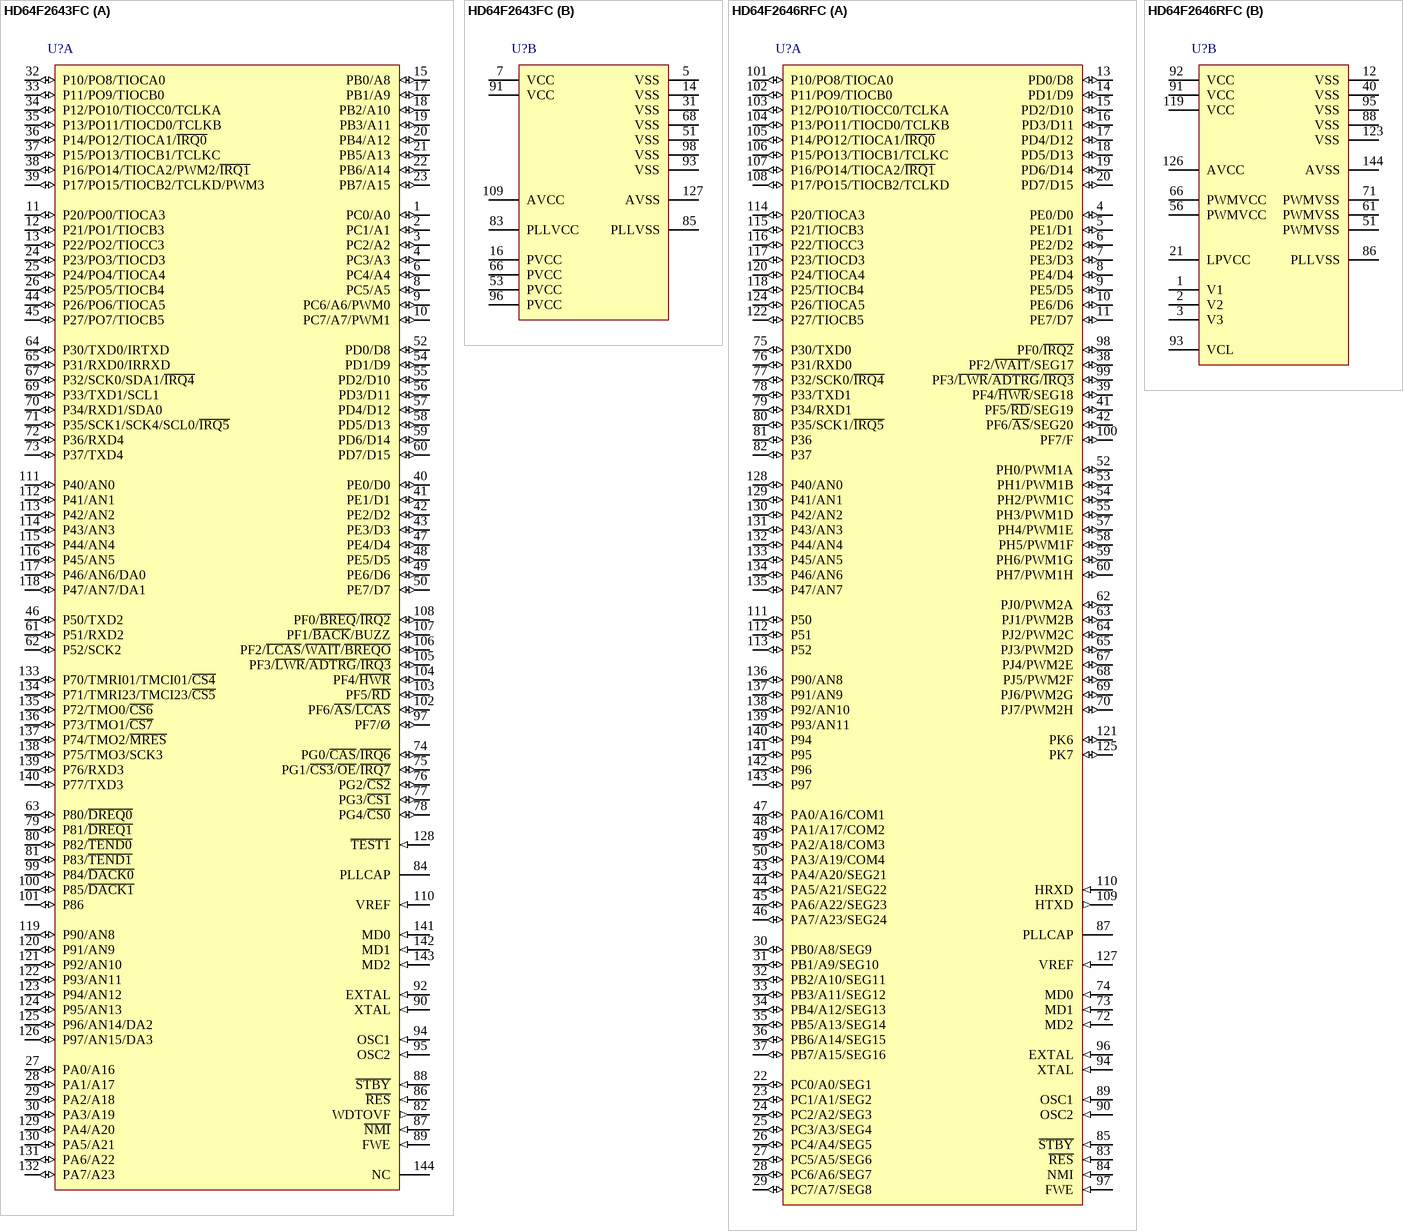
[diagram p85: symbols HD64F2643FC to HD64F2646RFC]